# Altium integrated library Altera Cyclone II.IntLib: 204 symbols (part 10 of 40)
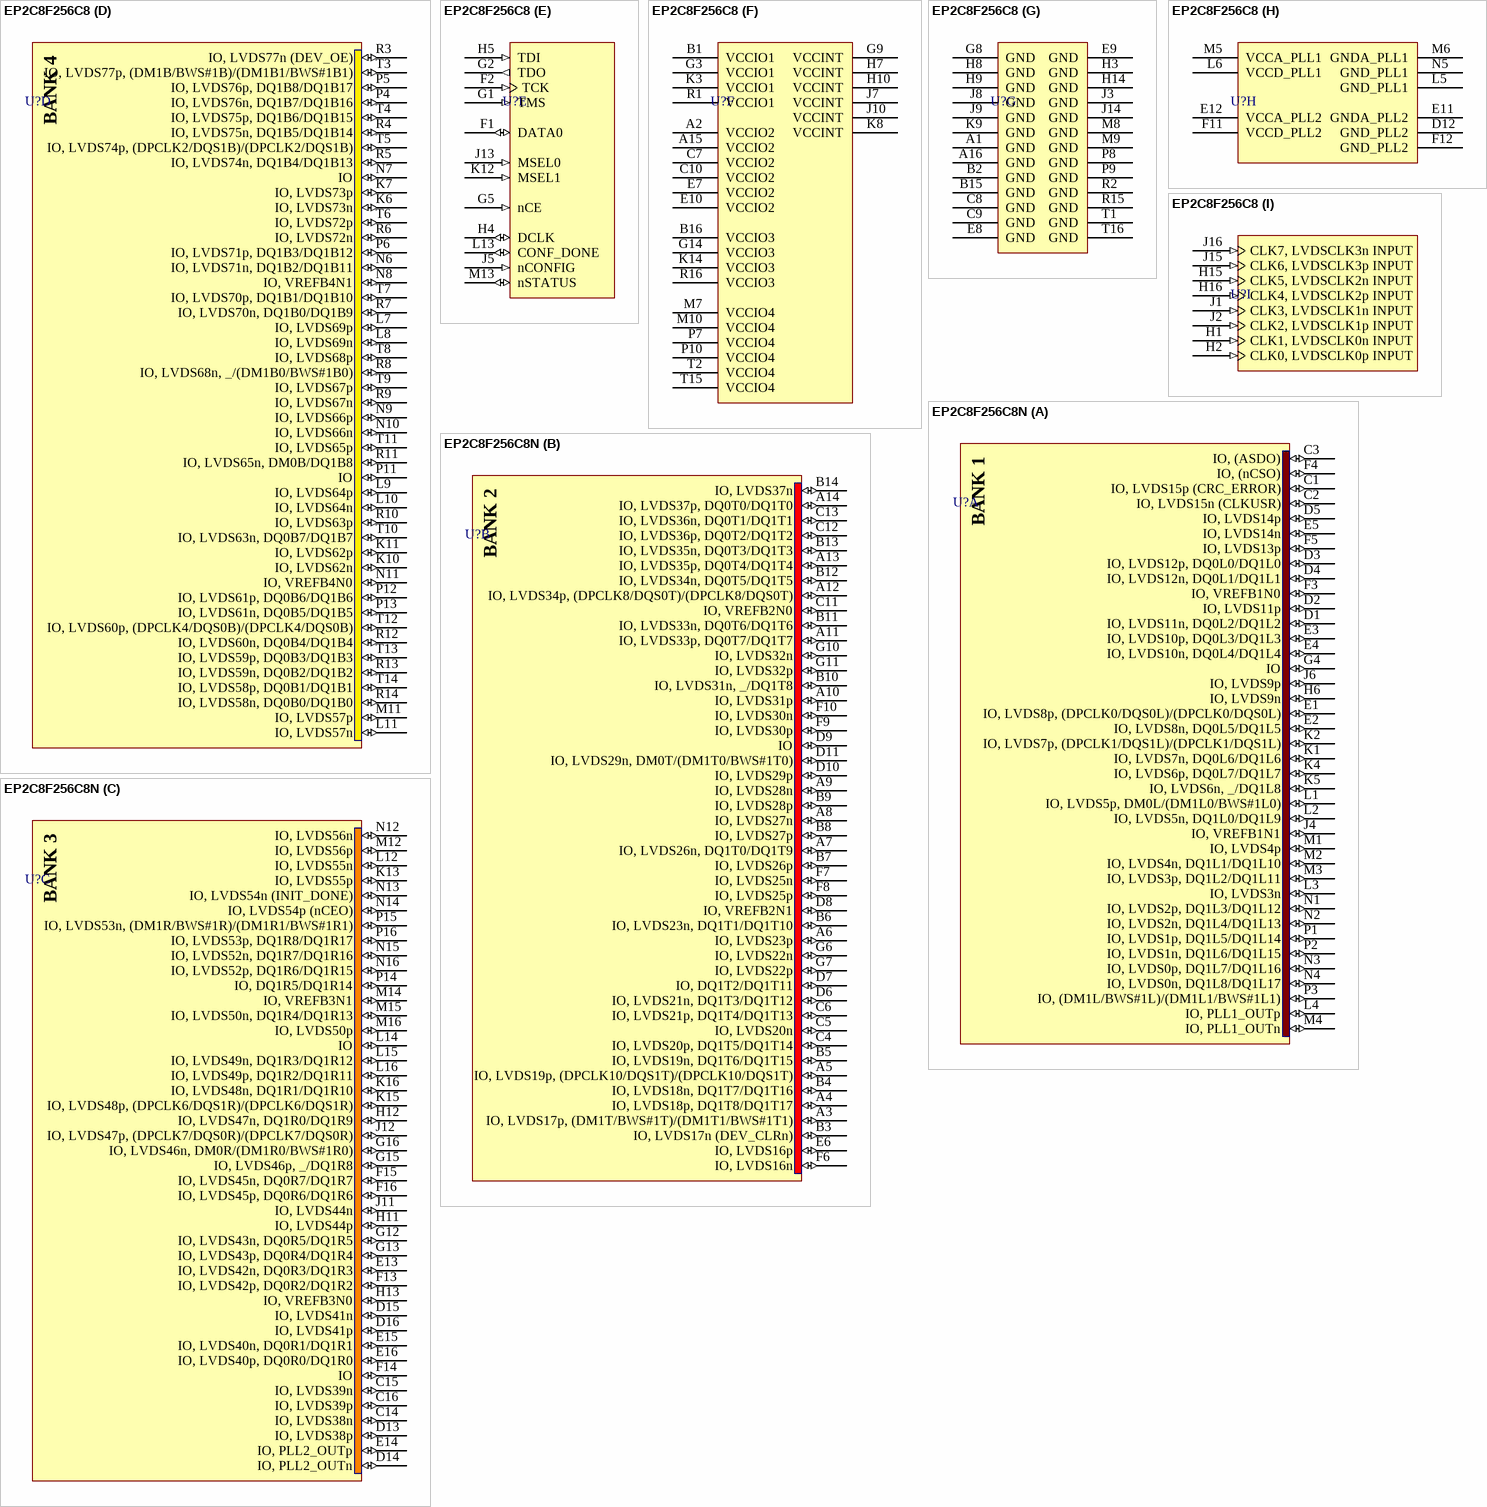
[diagram p339: symbols EP2C8F256C8 to EP2C8F256C8N]

## EP2C8F256C8
designator U?
Cyclone II Family, 1.2V FPGA, 182 I/O Pins, 2 PLLs, 256-Pin FBGA, Speed Grade 8, Commercial Grade; Note: DQS signal pins named according to DQ bus modes.  "/" separates each mode. ie. Modes x8/x9 / Modes x16/x18.; Published: 4-Mar-2005; LatestRevisionDate: 13-Apr-2006; LatestRevisionNote: IPC-7351 Footprint Added.; DatasheetVersion: ver2.3, Mar-2006; PackageVersion: ver14.2, Oct-2005; PackageReference: FBGA256; Publisher: Altium Limited; PackageDescription: 256-Ball FineLine Ball Grid Array (FBGA256) - Option 1; Code_JEDEC: MS-034-AAF-1; Code_IPC: BGA100P16X16-256; ComponentLink1Description: Manufacturer Link; ComponentLink1URL: http://www.altera.com/products/devices/cyclone2/cy2-index.jsp; ComponentLink2Description: Handbook; ComponentLink2URL: http://www.altera.com/literature/hb/cyc2/cyc2_cii5v1.pdf; ComponentLink3Description: Packaging Specification; ComponentLink3URL: http://www.altera.com/literature/ds/dspkg.pdf
footprint FBGA256 (BGA, 256-Leads, Body 17x17mm, Pitch 1mm)
3D model EP2C8-FBGA256 (256-Ball FineLine Ball Grid Array (FBGA256) - Option 1)
signal-integrity model EP2C8F_256 (Cyclone II)
part A pins: C1 IO, LVDS15p (CRC_ERROR) (io), C2 IO, LVDS15n (CLKUSR) (io), C3 IO, (ASDO) (io), D1 IO, LVDS11n, DQ0L2/DQ1L2 (io), D2 IO, LVDS11p (io), D3 IO, LVDS12p, DQ0L0/DQ1L0 (io), D4 IO, LVDS12n, DQ0L1/DQ1L1 (io), D5 IO, LVDS14p (io), E1 IO, LVDS8p, (DPCLK0/DQS0L)/(DPCLK0/DQS0L) (io), E2 IO, LVDS8n, DQ0L5/DQ1L5 (io), E3 IO, LVDS10p, DQ0L3/DQ1L3 (io), E4 IO, LVDS10n, DQ0L4/DQ1L4 (io), E5 IO, LVDS14n (io), F3 IO, VREFB1N0 (io), F4 IO, (nCSO) (io), F5 IO, LVDS13p (io), G4 IO (io), H6 IO, LVDS9n (io), J4 IO, VREFB1N1 (io), J6 IO, LVDS9p (io), K1 IO, LVDS7n, DQ0L6/DQ1L6 (io), K2 IO, LVDS7p, (DPCLK1/DQS1L)/(DPCLK1/DQS1L) (io), K4 IO, LVDS6p, DQ0L7/DQ1L7 (io), K5 IO, LVDS6n, _/DQ1L8 (io), L1 IO, LVDS5p, DM0L/(DM1L0/BWS#1L0) (io), L2 IO, LVDS5n, DQ1L0/DQ1L9 (io), L3 IO, LVDS3n (io), L4 IO, PLL1_OUTp (io), M1 IO, LVDS4p (io), M2 IO, LVDS4n, DQ1L1/DQ1L10 (io), M3 IO, LVDS3p, DQ1L2/DQ1L11 (io), M4 IO, PLL1_OUTn (io), N1 IO, LVDS2p, DQ1L3/DQ1L12 (io), N2 IO, LVDS2n, DQ1L4/DQ1L13 (io), N3 IO, LVDS0p, DQ1L7/DQ1L16 (io), N4 IO, LVDS0n, DQ1L8/DQ1L17 (io), P1 IO, LVDS1p, DQ1L5/DQ1L14 (io), P2 IO, LVDS1n, DQ1L6/DQ1L15 (io), P3 IO, (DM1L/BWS#1L)/(DM1L1/BWS#1L1) (io)
part B pins: A3 IO, LVDS17p, (DM1T/BWS#1T)/(DM1T1/BWS#1T1) (io), A4 IO, LVDS18p, DQ1T8/DQ1T17 (io), A5 IO, LVDS19p, (DPCLK10/DQS1T)/(DPCLK10/DQS1T) (io), A6 IO, LVDS23p (io), A7 IO, LVDS26n, DQ1T0/DQ1T9 (io), A8 IO, LVDS27n (io), A9 IO, LVDS28n (io), A10 IO, LVDS31p (io), A11 IO, LVDS33p, DQ0T7/DQ1T7 (io), A12 IO, LVDS34p, (DPCLK8/DQS0T)/(DPCLK8/DQS0T) (io), A13 IO, LVDS35p, DQ0T4/DQ1T4 (io), A14 IO, LVDS37p, DQ0T0/DQ1T0 (io), B3 IO, LVDS17n (DEV_CLRn) (io), B4 IO, LVDS18n, DQ1T7/DQ1T16 (io), B5 IO, LVDS19n, DQ1T6/DQ1T15 (io), B6 IO, LVDS23n, DQ1T1/DQ1T10 (io), B7 IO, LVDS26p (io), B8 IO, LVDS27p (io), B9 IO, LVDS28p (io), B10 IO, LVDS31n, _/DQ1T8 (io), B11 IO, LVDS33n, DQ0T6/DQ1T6 (io), B12 IO, LVDS34n, DQ0T5/DQ1T5 (io), B13 IO, LVDS35n, DQ0T3/DQ1T3 (io), B14 IO, LVDS37n (io), C4 IO, LVDS20p, DQ1T5/DQ1T14 (io), C5 IO, LVDS20n (io), C6 IO, LVDS21p, DQ1T4/DQ1T13 (io), C11 IO, VREFB2N0 (io), C12 IO, LVDS36p, DQ0T2/DQ1T2 (io), C13 IO, LVDS36n, DQ0T1/DQ1T1 (io), D6 IO, LVDS21n, DQ1T3/DQ1T12 (io), D7 IO, DQ1T2/DQ1T11 (io), D8 IO, VREFB2N1 (io), D9 IO (io), D10 IO, LVDS29p (io), D11 IO, LVDS29n, DM0T/(DM1T0/BWS#1T0) (io), E6 IO, LVDS16p (io), F6 IO, LVDS16n (io), F7 IO, LVDS25n (io), F8 IO, LVDS25p (io), F9 IO, LVDS30p (io), F10 IO, LVDS30n (io), G6 IO, LVDS22n (io), G7 IO, LVDS22p (io), G10 IO, LVDS32n (io), G11 IO, LVDS32p (io)
part C pins: C14 IO, LVDS38n (io), C15 IO, LVDS39n (io), C16 IO, LVDS39p (io), D13 IO, LVDS38p (io), D14 IO, PLL2_OUTn (io), D15 IO, LVDS41n (io), D16 IO, LVDS41p (io), E13 IO, LVDS42n, DQ0R3/DQ1R3 (io), E14 IO, PLL2_OUTp (io), E15 IO, LVDS40n, DQ0R1/DQ1R1 (io), E16 IO, LVDS40p, DQ0R0/DQ1R0 (io), F13 IO, LVDS42p, DQ0R2/DQ1R2 (io), F14 IO (io), F15 IO, LVDS45n, DQ0R7/DQ1R7 (io), F16 IO, LVDS45p, DQ0R6/DQ1R6 (io), G12 IO, LVDS43n, DQ0R5/DQ1R5 (io), G13 IO, LVDS43p, DQ0R4/DQ1R4 (io), G15 IO, LVDS46p, _/DQ1R8 (io), G16 IO, LVDS46n, DM0R/(DM1R0/BWS#1R0) (io), H11 IO, LVDS44p (io), H12 IO, LVDS47n, DQ1R0/DQ1R9 (io), H13 IO, VREFB3N0 (io), J11 IO, LVDS44n (io), J12 IO, LVDS47p, (DPCLK7/DQS0R)/(DPCLK7/DQS0R) (io), K13 IO, LVDS55p (io), K15 IO, LVDS48p, (DPCLK6/DQS1R)/(DPCLK6/DQS1R) (io), K16 IO, LVDS48n, DQ1R1/DQ1R10 (io), L12 IO, LVDS55n (io), L14 IO (io), L15 IO, LVDS49n, DQ1R3/DQ1R12 (io), L16 IO, LVDS49p, DQ1R2/DQ1R11 (io), M12 IO, LVDS56p (io), M14 IO, VREFB3N1 (io), M15 IO, LVDS50n, DQ1R4/DQ1R13 (io), M16 IO, LVDS50p (io), N12 IO, LVDS56n (io), N13 IO, LVDS54n (INIT_DONE) (io), N14 IO, LVDS54p (nCEO) (io), N15 IO, LVDS52n, DQ1R7/DQ1R16 (io), N16 IO, LVDS52p, DQ1R6/DQ1R15 (io), P14 IO, DQ1R5/DQ1R14 (io), P15 IO, LVDS53n, (DM1R/BWS#1R)/(DM1R1/BWS#1R1) (io), P16 IO, LVDS53p, DQ1R8/DQ1R17 (io)
part D pins: K6 IO, LVDS73n (io), K7 IO, LVDS73p (io), K10 IO, LVDS62n (io), K11 IO, LVDS62p (io), L7 IO, LVDS69p (io), L8 IO, LVDS69n (io), L9 IO, LVDS64p (io), L10 IO, LVDS64n (io), L11 IO, LVDS57n (io), M11 IO, LVDS57p (io), N6 IO, LVDS71n, DQ1B2/DQ1B11 (io), N7 IO (io), N8 IO, VREFB4N1 (io), N9 IO, LVDS66p (io), N10 IO, LVDS66n (io), N11 IO, VREFB4N0 (io), P4 IO, LVDS76n, DQ1B7/DQ1B16 (io), P5 IO, LVDS76p, DQ1B8/DQ1B17 (io), P6 IO, LVDS71p, DQ1B3/DQ1B12 (io), P11 IO (io), P12 IO, LVDS61p, DQ0B6/DQ1B6 (io), P13 IO, LVDS61n, DQ0B5/DQ1B5 (io), R3 IO, LVDS77n (DEV_OE) (io), R4 IO, LVDS75n, DQ1B5/DQ1B14 (io), R5 IO, LVDS74n, DQ1B4/DQ1B13 (io), R6 IO, LVDS72n (io), R7 IO, LVDS70n, DQ1B0/DQ1B9 (io), R8 IO, LVDS68n, _/(DM1B0/BWS#1B0) (io), R9 IO, LVDS67n (io), R10 IO, LVDS63p (io), R11 IO, LVDS65n, DM0B/DQ1B8 (io), R12 IO, LVDS60n, DQ0B4/DQ1B4 (io), R13 IO, LVDS59n, DQ0B2/DQ1B2 (io), R14 IO, LVDS58n, DQ0B0/DQ1B0 (io), T3 IO, LVDS77p, (DM1B/BWS#1B)/(DM1B1/BWS#1B1) (io), T4 IO, LVDS75p, DQ1B6/DQ1B15 (io), T5 IO, LVDS74p, (DPCLK2/DQS1B)/(DPCLK2/DQS1B) (io), T6 IO, LVDS72p (io), T7 IO, LVDS70p, DQ1B1/DQ1B10 (io), T8 IO, LVDS68p (io), T9 IO, LVDS67p (io), T10 IO, LVDS63n, DQ0B7/DQ1B7 (io), T11 IO, LVDS65p (io), T12 IO, LVDS60p, (DPCLK4/DQS0B)/(DPCLK4/DQS0B) (io), T13 IO, LVDS59p, DQ0B3/DQ1B3 (io), T14 IO, LVDS58p, DQ0B1/DQ1B1 (io)
part E pins: F1 DATA0 (io), F2 TCK (in), G1 TMS (in), G2 TDO (out), G5 nCE (in), H4 DCLK (io), H5 TDI (in), J5 nCONFIG (in), J13 MSEL0 (in), K12 MSEL1 (in), L13 CONF_DONE (io), M13 nSTATUS (io)
part F pins: A2 VCCIO2 (power), A15 VCCIO2 (power), B1 VCCIO1 (power), B16 VCCIO3 (power), C7 VCCIO2 (power), C10 VCCIO2 (power), E7 VCCIO2 (power), E10 VCCIO2 (power), G3 VCCIO1 (power), G9 VCCINT (power), G14 VCCIO3 (power), H7 VCCINT (power), H10 VCCINT (power), J7 VCCINT (power), J10 VCCINT (power), K3 VCCIO1 (power), K8 VCCINT (power), K14 VCCIO3 (power), M7 VCCIO4 (power), M10 VCCIO4 (power), P7 VCCIO4 (power), P10 VCCIO4 (power), R1 VCCIO1 (power), R16 VCCIO3 (power), T2 VCCIO4 (power), T15 VCCIO4 (power)
part G pins: A1 GND (power), A16 GND (power), B2 GND (power), B15 GND (power), C8 GND (power), C9 GND (power), E8 GND (power), E9 GND (power), G8 GND (power), H3 GND (power), H8 GND (power), H9 GND (power), H14 GND (power), J3 GND (power), J8 GND (power), J9 GND (power), J14 GND (power), K9 GND (power), M8 GND (power), M9 GND (power), P8 GND (power), P9 GND (power), R2 GND (power), R15 GND (power), T1 GND (power), T16 GND (power)
part H pins: D12 GND_PLL2 (power), E11 GNDA_PLL2 (power), E12 VCCA_PLL2 (power), F11 VCCD_PLL2 (power), F12 GND_PLL2 (power), L5 GND_PLL1 (power), L6 VCCD_PLL1 (power), M5 VCCA_PLL1 (power), M6 GNDA_PLL1 (power), N5 GND_PLL1 (power)
part I pins: H1 CLK1, LVDSCLK0n INPUT (in), H2 CLK0, LVDSCLK0p INPUT (in), H15 CLK5, LVDSCLK2n INPUT (in), H16 CLK4, LVDSCLK2p INPUT (in), J1 CLK3, LVDSCLK1n INPUT (in), J2 CLK2, LVDSCLK1p INPUT (in), J15 CLK6, LVDSCLK3p INPUT (in), J16 CLK7, LVDSCLK3n INPUT (in)
part A text: BANK 1
part B text: BANK 2
part C text: BANK 3
part D text: BANK 4

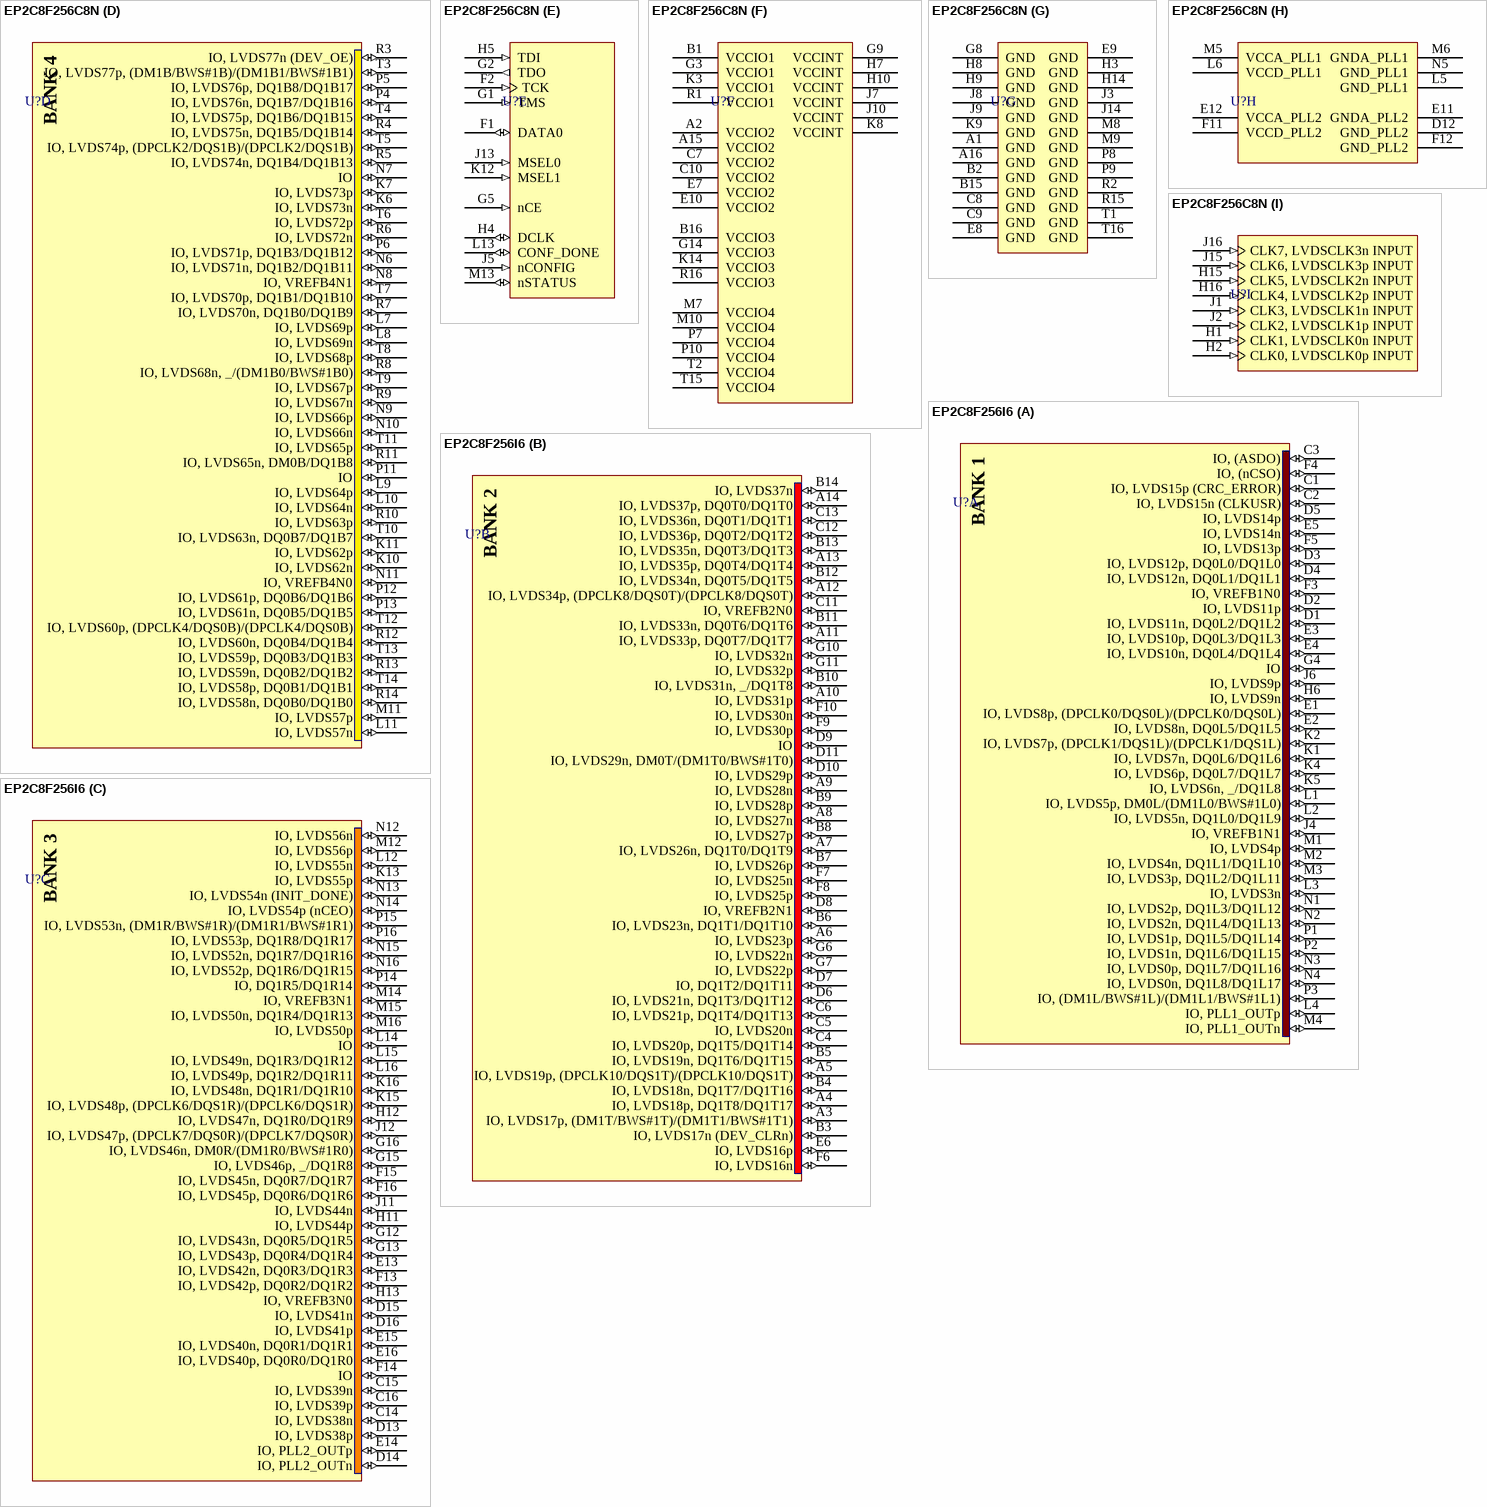
[diagram p35: symbols EP2C8F256C8N to EP2C8F256I6]

## EP2C8F256C8N
designator U?
Cyclone II Family, 1.2V FPGA, 182 I/O Pins, 2 PLLs, 256-Pin FBGA, Speed Grade 8, Commercial Grade, Pb-Free; Note: DQS signal pins named according to DQ bus modes.  "/" separates each mode. ie. Modes x8/x9 / Modes x16/x18.; Published: 4-Mar-2005; LatestRevisionDate: 13-Apr-2006; LatestRevisionNote: IPC-7351 Footprint Added.; DatasheetVersion: ver2.3, Mar-2006; PackageVersion: ver14.2, Oct-2005; PackageReference: FBGA256; Publisher: Altium Limited; PackageDescription: 256-Ball FineLine Ball Grid Array (FBGA256) - Option 1; Code_JEDEC: MS-034-AAF-1; Code_IPC: BGA100P16X16-256; ComponentLink1Description: Manufacturer Link; ComponentLink1URL: http://www.altera.com/products/devices/cyclone2/cy2-index.jsp; ComponentLink2Description: Handbook; ComponentLink2URL: http://www.altera.com/literature/hb/cyc2/cyc2_cii5v1.pdf; ComponentLink3Description: Packaging Specification; ComponentLink3URL: http://www.altera.com/literature/ds/dspkg.pdf
footprint FBGA256 (BGA, 256-Leads, Body 17x17mm, Pitch 1mm)
3D model EP2C8-FBGA256 (256-Ball FineLine Ball Grid Array (FBGA256) - Option 1)
signal-integrity model EP2C8F_256 (Cyclone II)
part A pins: C1 IO, LVDS15p (CRC_ERROR) (io), C2 IO, LVDS15n (CLKUSR) (io), C3 IO, (ASDO) (io), D1 IO, LVDS11n, DQ0L2/DQ1L2 (io), D2 IO, LVDS11p (io), D3 IO, LVDS12p, DQ0L0/DQ1L0 (io), D4 IO, LVDS12n, DQ0L1/DQ1L1 (io), D5 IO, LVDS14p (io), E1 IO, LVDS8p, (DPCLK0/DQS0L)/(DPCLK0/DQS0L) (io), E2 IO, LVDS8n, DQ0L5/DQ1L5 (io), E3 IO, LVDS10p, DQ0L3/DQ1L3 (io), E4 IO, LVDS10n, DQ0L4/DQ1L4 (io), E5 IO, LVDS14n (io), F3 IO, VREFB1N0 (io), F4 IO, (nCSO) (io), F5 IO, LVDS13p (io), G4 IO (io), H6 IO, LVDS9n (io), J4 IO, VREFB1N1 (io), J6 IO, LVDS9p (io), K1 IO, LVDS7n, DQ0L6/DQ1L6 (io), K2 IO, LVDS7p, (DPCLK1/DQS1L)/(DPCLK1/DQS1L) (io), K4 IO, LVDS6p, DQ0L7/DQ1L7 (io), K5 IO, LVDS6n, _/DQ1L8 (io), L1 IO, LVDS5p, DM0L/(DM1L0/BWS#1L0) (io), L2 IO, LVDS5n, DQ1L0/DQ1L9 (io), L3 IO, LVDS3n (io), L4 IO, PLL1_OUTp (io), M1 IO, LVDS4p (io), M2 IO, LVDS4n, DQ1L1/DQ1L10 (io), M3 IO, LVDS3p, DQ1L2/DQ1L11 (io), M4 IO, PLL1_OUTn (io), N1 IO, LVDS2p, DQ1L3/DQ1L12 (io), N2 IO, LVDS2n, DQ1L4/DQ1L13 (io), N3 IO, LVDS0p, DQ1L7/DQ1L16 (io), N4 IO, LVDS0n, DQ1L8/DQ1L17 (io), P1 IO, LVDS1p, DQ1L5/DQ1L14 (io), P2 IO, LVDS1n, DQ1L6/DQ1L15 (io), P3 IO, (DM1L/BWS#1L)/(DM1L1/BWS#1L1) (io)
part B pins: A3 IO, LVDS17p, (DM1T/BWS#1T)/(DM1T1/BWS#1T1) (io), A4 IO, LVDS18p, DQ1T8/DQ1T17 (io), A5 IO, LVDS19p, (DPCLK10/DQS1T)/(DPCLK10/DQS1T) (io), A6 IO, LVDS23p (io), A7 IO, LVDS26n, DQ1T0/DQ1T9 (io), A8 IO, LVDS27n (io), A9 IO, LVDS28n (io), A10 IO, LVDS31p (io), A11 IO, LVDS33p, DQ0T7/DQ1T7 (io), A12 IO, LVDS34p, (DPCLK8/DQS0T)/(DPCLK8/DQS0T) (io), A13 IO, LVDS35p, DQ0T4/DQ1T4 (io), A14 IO, LVDS37p, DQ0T0/DQ1T0 (io), B3 IO, LVDS17n (DEV_CLRn) (io), B4 IO, LVDS18n, DQ1T7/DQ1T16 (io), B5 IO, LVDS19n, DQ1T6/DQ1T15 (io), B6 IO, LVDS23n, DQ1T1/DQ1T10 (io), B7 IO, LVDS26p (io), B8 IO, LVDS27p (io), B9 IO, LVDS28p (io), B10 IO, LVDS31n, _/DQ1T8 (io), B11 IO, LVDS33n, DQ0T6/DQ1T6 (io), B12 IO, LVDS34n, DQ0T5/DQ1T5 (io), B13 IO, LVDS35n, DQ0T3/DQ1T3 (io), B14 IO, LVDS37n (io), C4 IO, LVDS20p, DQ1T5/DQ1T14 (io), C5 IO, LVDS20n (io), C6 IO, LVDS21p, DQ1T4/DQ1T13 (io), C11 IO, VREFB2N0 (io), C12 IO, LVDS36p, DQ0T2/DQ1T2 (io), C13 IO, LVDS36n, DQ0T1/DQ1T1 (io), D6 IO, LVDS21n, DQ1T3/DQ1T12 (io), D7 IO, DQ1T2/DQ1T11 (io), D8 IO, VREFB2N1 (io), D9 IO (io), D10 IO, LVDS29p (io), D11 IO, LVDS29n, DM0T/(DM1T0/BWS#1T0) (io), E6 IO, LVDS16p (io), F6 IO, LVDS16n (io), F7 IO, LVDS25n (io), F8 IO, LVDS25p (io), F9 IO, LVDS30p (io), F10 IO, LVDS30n (io), G6 IO, LVDS22n (io), G7 IO, LVDS22p (io), G10 IO, LVDS32n (io), G11 IO, LVDS32p (io)
part C pins: C14 IO, LVDS38n (io), C15 IO, LVDS39n (io), C16 IO, LVDS39p (io), D13 IO, LVDS38p (io), D14 IO, PLL2_OUTn (io), D15 IO, LVDS41n (io), D16 IO, LVDS41p (io), E13 IO, LVDS42n, DQ0R3/DQ1R3 (io), E14 IO, PLL2_OUTp (io), E15 IO, LVDS40n, DQ0R1/DQ1R1 (io), E16 IO, LVDS40p, DQ0R0/DQ1R0 (io), F13 IO, LVDS42p, DQ0R2/DQ1R2 (io), F14 IO (io), F15 IO, LVDS45n, DQ0R7/DQ1R7 (io), F16 IO, LVDS45p, DQ0R6/DQ1R6 (io), G12 IO, LVDS43n, DQ0R5/DQ1R5 (io), G13 IO, LVDS43p, DQ0R4/DQ1R4 (io), G15 IO, LVDS46p, _/DQ1R8 (io), G16 IO, LVDS46n, DM0R/(DM1R0/BWS#1R0) (io), H11 IO, LVDS44p (io), H12 IO, LVDS47n, DQ1R0/DQ1R9 (io), H13 IO, VREFB3N0 (io), J11 IO, LVDS44n (io), J12 IO, LVDS47p, (DPCLK7/DQS0R)/(DPCLK7/DQS0R) (io), K13 IO, LVDS55p (io), K15 IO, LVDS48p, (DPCLK6/DQS1R)/(DPCLK6/DQS1R) (io), K16 IO, LVDS48n, DQ1R1/DQ1R10 (io), L12 IO, LVDS55n (io), L14 IO (io), L15 IO, LVDS49n, DQ1R3/DQ1R12 (io), L16 IO, LVDS49p, DQ1R2/DQ1R11 (io), M12 IO, LVDS56p (io), M14 IO, VREFB3N1 (io), M15 IO, LVDS50n, DQ1R4/DQ1R13 (io), M16 IO, LVDS50p (io), N12 IO, LVDS56n (io), N13 IO, LVDS54n (INIT_DONE) (io), N14 IO, LVDS54p (nCEO) (io), N15 IO, LVDS52n, DQ1R7/DQ1R16 (io), N16 IO, LVDS52p, DQ1R6/DQ1R15 (io), P14 IO, DQ1R5/DQ1R14 (io), P15 IO, LVDS53n, (DM1R/BWS#1R)/(DM1R1/BWS#1R1) (io), P16 IO, LVDS53p, DQ1R8/DQ1R17 (io)
part D pins: K6 IO, LVDS73n (io), K7 IO, LVDS73p (io), K10 IO, LVDS62n (io), K11 IO, LVDS62p (io), L7 IO, LVDS69p (io), L8 IO, LVDS69n (io), L9 IO, LVDS64p (io), L10 IO, LVDS64n (io), L11 IO, LVDS57n (io), M11 IO, LVDS57p (io), N6 IO, LVDS71n, DQ1B2/DQ1B11 (io), N7 IO (io), N8 IO, VREFB4N1 (io), N9 IO, LVDS66p (io), N10 IO, LVDS66n (io), N11 IO, VREFB4N0 (io), P4 IO, LVDS76n, DQ1B7/DQ1B16 (io), P5 IO, LVDS76p, DQ1B8/DQ1B17 (io), P6 IO, LVDS71p, DQ1B3/DQ1B12 (io), P11 IO (io), P12 IO, LVDS61p, DQ0B6/DQ1B6 (io), P13 IO, LVDS61n, DQ0B5/DQ1B5 (io), R3 IO, LVDS77n (DEV_OE) (io), R4 IO, LVDS75n, DQ1B5/DQ1B14 (io), R5 IO, LVDS74n, DQ1B4/DQ1B13 (io), R6 IO, LVDS72n (io), R7 IO, LVDS70n, DQ1B0/DQ1B9 (io), R8 IO, LVDS68n, _/(DM1B0/BWS#1B0) (io), R9 IO, LVDS67n (io), R10 IO, LVDS63p (io), R11 IO, LVDS65n, DM0B/DQ1B8 (io), R12 IO, LVDS60n, DQ0B4/DQ1B4 (io), R13 IO, LVDS59n, DQ0B2/DQ1B2 (io), R14 IO, LVDS58n, DQ0B0/DQ1B0 (io), T3 IO, LVDS77p, (DM1B/BWS#1B)/(DM1B1/BWS#1B1) (io), T4 IO, LVDS75p, DQ1B6/DQ1B15 (io), T5 IO, LVDS74p, (DPCLK2/DQS1B)/(DPCLK2/DQS1B) (io), T6 IO, LVDS72p (io), T7 IO, LVDS70p, DQ1B1/DQ1B10 (io), T8 IO, LVDS68p (io), T9 IO, LVDS67p (io), T10 IO, LVDS63n, DQ0B7/DQ1B7 (io), T11 IO, LVDS65p (io), T12 IO, LVDS60p, (DPCLK4/DQS0B)/(DPCLK4/DQS0B) (io), T13 IO, LVDS59p, DQ0B3/DQ1B3 (io), T14 IO, LVDS58p, DQ0B1/DQ1B1 (io)
part E pins: F1 DATA0 (io), F2 TCK (in), G1 TMS (in), G2 TDO (out), G5 nCE (in), H4 DCLK (io), H5 TDI (in), J5 nCONFIG (in), J13 MSEL0 (in), K12 MSEL1 (in), L13 CONF_DONE (io), M13 nSTATUS (io)
part F pins: A2 VCCIO2 (power), A15 VCCIO2 (power), B1 VCCIO1 (power), B16 VCCIO3 (power), C7 VCCIO2 (power), C10 VCCIO2 (power), E7 VCCIO2 (power), E10 VCCIO2 (power), G3 VCCIO1 (power), G9 VCCINT (power), G14 VCCIO3 (power), H7 VCCINT (power), H10 VCCINT (power), J7 VCCINT (power), J10 VCCINT (power), K3 VCCIO1 (power), K8 VCCINT (power), K14 VCCIO3 (power), M7 VCCIO4 (power), M10 VCCIO4 (power), P7 VCCIO4 (power), P10 VCCIO4 (power), R1 VCCIO1 (power), R16 VCCIO3 (power), T2 VCCIO4 (power), T15 VCCIO4 (power)
part G pins: A1 GND (power), A16 GND (power), B2 GND (power), B15 GND (power), C8 GND (power), C9 GND (power), E8 GND (power), E9 GND (power), G8 GND (power), H3 GND (power), H8 GND (power), H9 GND (power), H14 GND (power), J3 GND (power), J8 GND (power), J9 GND (power), J14 GND (power), K9 GND (power), M8 GND (power), M9 GND (power), P8 GND (power), P9 GND (power), R2 GND (power), R15 GND (power), T1 GND (power), T16 GND (power)
part H pins: D12 GND_PLL2 (power), E11 GNDA_PLL2 (power), E12 VCCA_PLL2 (power), F11 VCCD_PLL2 (power), F12 GND_PLL2 (power), L5 GND_PLL1 (power), L6 VCCD_PLL1 (power), M5 VCCA_PLL1 (power), M6 GNDA_PLL1 (power), N5 GND_PLL1 (power)
part I pins: H1 CLK1, LVDSCLK0n INPUT (in), H2 CLK0, LVDSCLK0p INPUT (in), H15 CLK5, LVDSCLK2n INPUT (in), H16 CLK4, LVDSCLK2p INPUT (in), J1 CLK3, LVDSCLK1n INPUT (in), J2 CLK2, LVDSCLK1p INPUT (in), J15 CLK6, LVDSCLK3p INPUT (in), J16 CLK7, LVDSCLK3n INPUT (in)
part A text: BANK 1
part B text: BANK 2
part C text: BANK 3
part D text: BANK 4

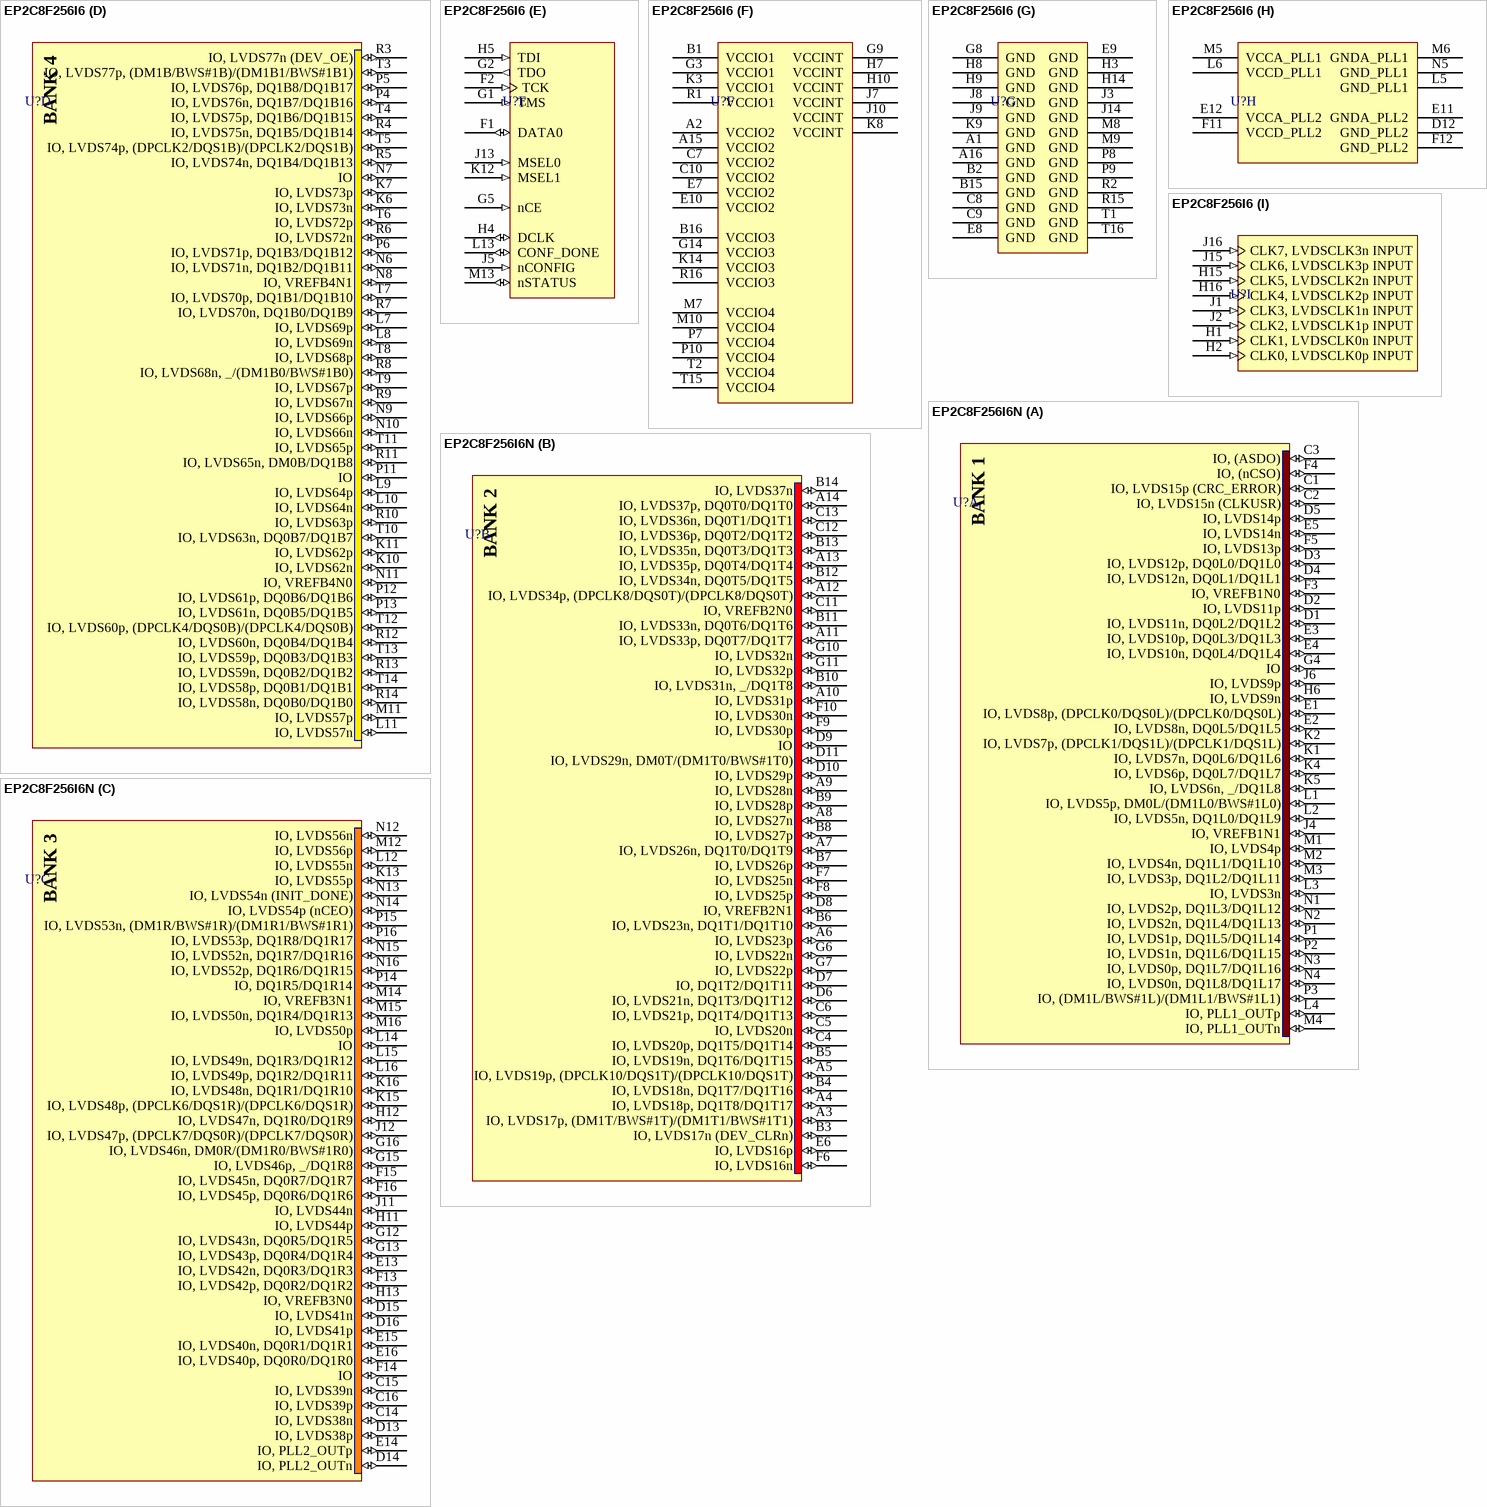
[diagram p36: symbols EP2C8F256I6 to EP2C8F256I6N]

## EP2C8F256I6
designator U?
Cyclone II Family, 1.2V FPGA, 182 I/O Pins, 2 PLLs, 256-Pin FBGA, Speed Grade 6, Industrial Grade; Note: DQS signal pins named according to DQ bus modes.  "/" separates each mode. ie. Modes x8/x9 / Modes x16/x18.; Published: 18-Aug-2005; LatestRevisionDate: 13-Apr-2006; LatestRevisionNote: IPC-7351 Footprint Added.; DatasheetVersion: ver2.3, Mar-2006; PackageVersion: ver14.2, Oct-2005; PackageReference: FBGA256; Publisher: Altium Limited; PackageDescription: 256-Ball FineLine Ball Grid Array (FBGA256) - Option 1; Code_JEDEC: MS-034-AAF-1; Code_IPC: BGA100P16X16-256; ComponentLink1Description: Manufacturer Link; ComponentLink1URL: http://www.altera.com/products/devices/cyclone2/cy2-index.jsp; ComponentLink2Description: Handbook; ComponentLink2URL: http://www.altera.com/literature/hb/cyc2/cyc2_cii5v1.pdf; ComponentLink3Description: Packaging Specification; ComponentLink3URL: http://www.altera.com/literature/ds/dspkg.pdf
footprint FBGA256 (BGA, 256-Leads, Body 17x17mm, Pitch 1mm)
3D model EP2C8-FBGA256 (256-Ball FineLine Ball Grid Array (FBGA256) - Option 1)
signal-integrity model EP2C8F_256 (Cyclone II)
part A pins: C1 IO, LVDS15p (CRC_ERROR) (io), C2 IO, LVDS15n (CLKUSR) (io), C3 IO, (ASDO) (io), D1 IO, LVDS11n, DQ0L2/DQ1L2 (io), D2 IO, LVDS11p (io), D3 IO, LVDS12p, DQ0L0/DQ1L0 (io), D4 IO, LVDS12n, DQ0L1/DQ1L1 (io), D5 IO, LVDS14p (io), E1 IO, LVDS8p, (DPCLK0/DQS0L)/(DPCLK0/DQS0L) (io), E2 IO, LVDS8n, DQ0L5/DQ1L5 (io), E3 IO, LVDS10p, DQ0L3/DQ1L3 (io), E4 IO, LVDS10n, DQ0L4/DQ1L4 (io), E5 IO, LVDS14n (io), F3 IO, VREFB1N0 (io), F4 IO, (nCSO) (io), F5 IO, LVDS13p (io), G4 IO (io), H6 IO, LVDS9n (io), J4 IO, VREFB1N1 (io), J6 IO, LVDS9p (io), K1 IO, LVDS7n, DQ0L6/DQ1L6 (io), K2 IO, LVDS7p, (DPCLK1/DQS1L)/(DPCLK1/DQS1L) (io), K4 IO, LVDS6p, DQ0L7/DQ1L7 (io), K5 IO, LVDS6n, _/DQ1L8 (io), L1 IO, LVDS5p, DM0L/(DM1L0/BWS#1L0) (io), L2 IO, LVDS5n, DQ1L0/DQ1L9 (io), L3 IO, LVDS3n (io), L4 IO, PLL1_OUTp (io), M1 IO, LVDS4p (io), M2 IO, LVDS4n, DQ1L1/DQ1L10 (io), M3 IO, LVDS3p, DQ1L2/DQ1L11 (io), M4 IO, PLL1_OUTn (io), N1 IO, LVDS2p, DQ1L3/DQ1L12 (io), N2 IO, LVDS2n, DQ1L4/DQ1L13 (io), N3 IO, LVDS0p, DQ1L7/DQ1L16 (io), N4 IO, LVDS0n, DQ1L8/DQ1L17 (io), P1 IO, LVDS1p, DQ1L5/DQ1L14 (io), P2 IO, LVDS1n, DQ1L6/DQ1L15 (io), P3 IO, (DM1L/BWS#1L)/(DM1L1/BWS#1L1) (io)
part B pins: A3 IO, LVDS17p, (DM1T/BWS#1T)/(DM1T1/BWS#1T1) (io), A4 IO, LVDS18p, DQ1T8/DQ1T17 (io), A5 IO, LVDS19p, (DPCLK10/DQS1T)/(DPCLK10/DQS1T) (io), A6 IO, LVDS23p (io), A7 IO, LVDS26n, DQ1T0/DQ1T9 (io), A8 IO, LVDS27n (io), A9 IO, LVDS28n (io), A10 IO, LVDS31p (io), A11 IO, LVDS33p, DQ0T7/DQ1T7 (io), A12 IO, LVDS34p, (DPCLK8/DQS0T)/(DPCLK8/DQS0T) (io), A13 IO, LVDS35p, DQ0T4/DQ1T4 (io), A14 IO, LVDS37p, DQ0T0/DQ1T0 (io), B3 IO, LVDS17n (DEV_CLRn) (io), B4 IO, LVDS18n, DQ1T7/DQ1T16 (io), B5 IO, LVDS19n, DQ1T6/DQ1T15 (io), B6 IO, LVDS23n, DQ1T1/DQ1T10 (io), B7 IO, LVDS26p (io), B8 IO, LVDS27p (io), B9 IO, LVDS28p (io), B10 IO, LVDS31n, _/DQ1T8 (io), B11 IO, LVDS33n, DQ0T6/DQ1T6 (io), B12 IO, LVDS34n, DQ0T5/DQ1T5 (io), B13 IO, LVDS35n, DQ0T3/DQ1T3 (io), B14 IO, LVDS37n (io), C4 IO, LVDS20p, DQ1T5/DQ1T14 (io), C5 IO, LVDS20n (io), C6 IO, LVDS21p, DQ1T4/DQ1T13 (io), C11 IO, VREFB2N0 (io), C12 IO, LVDS36p, DQ0T2/DQ1T2 (io), C13 IO, LVDS36n, DQ0T1/DQ1T1 (io), D6 IO, LVDS21n, DQ1T3/DQ1T12 (io), D7 IO, DQ1T2/DQ1T11 (io), D8 IO, VREFB2N1 (io), D9 IO (io), D10 IO, LVDS29p (io), D11 IO, LVDS29n, DM0T/(DM1T0/BWS#1T0) (io), E6 IO, LVDS16p (io), F6 IO, LVDS16n (io), F7 IO, LVDS25n (io), F8 IO, LVDS25p (io), F9 IO, LVDS30p (io), F10 IO, LVDS30n (io), G6 IO, LVDS22n (io), G7 IO, LVDS22p (io), G10 IO, LVDS32n (io), G11 IO, LVDS32p (io)
part C pins: C14 IO, LVDS38n (io), C15 IO, LVDS39n (io), C16 IO, LVDS39p (io), D13 IO, LVDS38p (io), D14 IO, PLL2_OUTn (io), D15 IO, LVDS41n (io), D16 IO, LVDS41p (io), E13 IO, LVDS42n, DQ0R3/DQ1R3 (io), E14 IO, PLL2_OUTp (io), E15 IO, LVDS40n, DQ0R1/DQ1R1 (io), E16 IO, LVDS40p, DQ0R0/DQ1R0 (io), F13 IO, LVDS42p, DQ0R2/DQ1R2 (io), F14 IO (io), F15 IO, LVDS45n, DQ0R7/DQ1R7 (io), F16 IO, LVDS45p, DQ0R6/DQ1R6 (io), G12 IO, LVDS43n, DQ0R5/DQ1R5 (io), G13 IO, LVDS43p, DQ0R4/DQ1R4 (io), G15 IO, LVDS46p, _/DQ1R8 (io), G16 IO, LVDS46n, DM0R/(DM1R0/BWS#1R0) (io), H11 IO, LVDS44p (io), H12 IO, LVDS47n, DQ1R0/DQ1R9 (io), H13 IO, VREFB3N0 (io), J11 IO, LVDS44n (io), J12 IO, LVDS47p, (DPCLK7/DQS0R)/(DPCLK7/DQS0R) (io), K13 IO, LVDS55p (io), K15 IO, LVDS48p, (DPCLK6/DQS1R)/(DPCLK6/DQS1R) (io), K16 IO, LVDS48n, DQ1R1/DQ1R10 (io), L12 IO, LVDS55n (io), L14 IO (io), L15 IO, LVDS49n, DQ1R3/DQ1R12 (io), L16 IO, LVDS49p, DQ1R2/DQ1R11 (io), M12 IO, LVDS56p (io), M14 IO, VREFB3N1 (io), M15 IO, LVDS50n, DQ1R4/DQ1R13 (io), M16 IO, LVDS50p (io), N12 IO, LVDS56n (io), N13 IO, LVDS54n (INIT_DONE) (io), N14 IO, LVDS54p (nCEO) (io), N15 IO, LVDS52n, DQ1R7/DQ1R16 (io), N16 IO, LVDS52p, DQ1R6/DQ1R15 (io), P14 IO, DQ1R5/DQ1R14 (io), P15 IO, LVDS53n, (DM1R/BWS#1R)/(DM1R1/BWS#1R1) (io), P16 IO, LVDS53p, DQ1R8/DQ1R17 (io)
part D pins: K6 IO, LVDS73n (io), K7 IO, LVDS73p (io), K10 IO, LVDS62n (io), K11 IO, LVDS62p (io), L7 IO, LVDS69p (io), L8 IO, LVDS69n (io), L9 IO, LVDS64p (io), L10 IO, LVDS64n (io), L11 IO, LVDS57n (io), M11 IO, LVDS57p (io), N6 IO, LVDS71n, DQ1B2/DQ1B11 (io), N7 IO (io), N8 IO, VREFB4N1 (io), N9 IO, LVDS66p (io), N10 IO, LVDS66n (io), N11 IO, VREFB4N0 (io), P4 IO, LVDS76n, DQ1B7/DQ1B16 (io), P5 IO, LVDS76p, DQ1B8/DQ1B17 (io), P6 IO, LVDS71p, DQ1B3/DQ1B12 (io), P11 IO (io), P12 IO, LVDS61p, DQ0B6/DQ1B6 (io), P13 IO, LVDS61n, DQ0B5/DQ1B5 (io), R3 IO, LVDS77n (DEV_OE) (io), R4 IO, LVDS75n, DQ1B5/DQ1B14 (io), R5 IO, LVDS74n, DQ1B4/DQ1B13 (io), R6 IO, LVDS72n (io), R7 IO, LVDS70n, DQ1B0/DQ1B9 (io), R8 IO, LVDS68n, _/(DM1B0/BWS#1B0) (io), R9 IO, LVDS67n (io), R10 IO, LVDS63p (io), R11 IO, LVDS65n, DM0B/DQ1B8 (io), R12 IO, LVDS60n, DQ0B4/DQ1B4 (io), R13 IO, LVDS59n, DQ0B2/DQ1B2 (io), R14 IO, LVDS58n, DQ0B0/DQ1B0 (io), T3 IO, LVDS77p, (DM1B/BWS#1B)/(DM1B1/BWS#1B1) (io), T4 IO, LVDS75p, DQ1B6/DQ1B15 (io), T5 IO, LVDS74p, (DPCLK2/DQS1B)/(DPCLK2/DQS1B) (io), T6 IO, LVDS72p (io), T7 IO, LVDS70p, DQ1B1/DQ1B10 (io), T8 IO, LVDS68p (io), T9 IO, LVDS67p (io), T10 IO, LVDS63n, DQ0B7/DQ1B7 (io), T11 IO, LVDS65p (io), T12 IO, LVDS60p, (DPCLK4/DQS0B)/(DPCLK4/DQS0B) (io), T13 IO, LVDS59p, DQ0B3/DQ1B3 (io), T14 IO, LVDS58p, DQ0B1/DQ1B1 (io)
part E pins: F1 DATA0 (io), F2 TCK (in), G1 TMS (in), G2 TDO (out), G5 nCE (in), H4 DCLK (io), H5 TDI (in), J5 nCONFIG (in), J13 MSEL0 (in), K12 MSEL1 (in), L13 CONF_DONE (io), M13 nSTATUS (io)
part F pins: A2 VCCIO2 (power), A15 VCCIO2 (power), B1 VCCIO1 (power), B16 VCCIO3 (power), C7 VCCIO2 (power), C10 VCCIO2 (power), E7 VCCIO2 (power), E10 VCCIO2 (power), G3 VCCIO1 (power), G9 VCCINT (power), G14 VCCIO3 (power), H7 VCCINT (power), H10 VCCINT (power), J7 VCCINT (power), J10 VCCINT (power), K3 VCCIO1 (power), K8 VCCINT (power), K14 VCCIO3 (power), M7 VCCIO4 (power), M10 VCCIO4 (power), P7 VCCIO4 (power), P10 VCCIO4 (power), R1 VCCIO1 (power), R16 VCCIO3 (power), T2 VCCIO4 (power), T15 VCCIO4 (power)
part G pins: A1 GND (power), A16 GND (power), B2 GND (power), B15 GND (power), C8 GND (power), C9 GND (power), E8 GND (power), E9 GND (power), G8 GND (power), H3 GND (power), H8 GND (power), H9 GND (power), H14 GND (power), J3 GND (power), J8 GND (power), J9 GND (power), J14 GND (power), K9 GND (power), M8 GND (power), M9 GND (power), P8 GND (power), P9 GND (power), R2 GND (power), R15 GND (power), T1 GND (power), T16 GND (power)
part H pins: D12 GND_PLL2 (power), E11 GNDA_PLL2 (power), E12 VCCA_PLL2 (power), F11 VCCD_PLL2 (power), F12 GND_PLL2 (power), L5 GND_PLL1 (power), L6 VCCD_PLL1 (power), M5 VCCA_PLL1 (power), M6 GNDA_PLL1 (power), N5 GND_PLL1 (power)
part I pins: H1 CLK1, LVDSCLK0n INPUT (in), H2 CLK0, LVDSCLK0p INPUT (in), H15 CLK5, LVDSCLK2n INPUT (in), H16 CLK4, LVDSCLK2p INPUT (in), J1 CLK3, LVDSCLK1n INPUT (in), J2 CLK2, LVDSCLK1p INPUT (in), J15 CLK6, LVDSCLK3p INPUT (in), J16 CLK7, LVDSCLK3n INPUT (in)
part A text: BANK 1
part B text: BANK 2
part C text: BANK 3
part D text: BANK 4

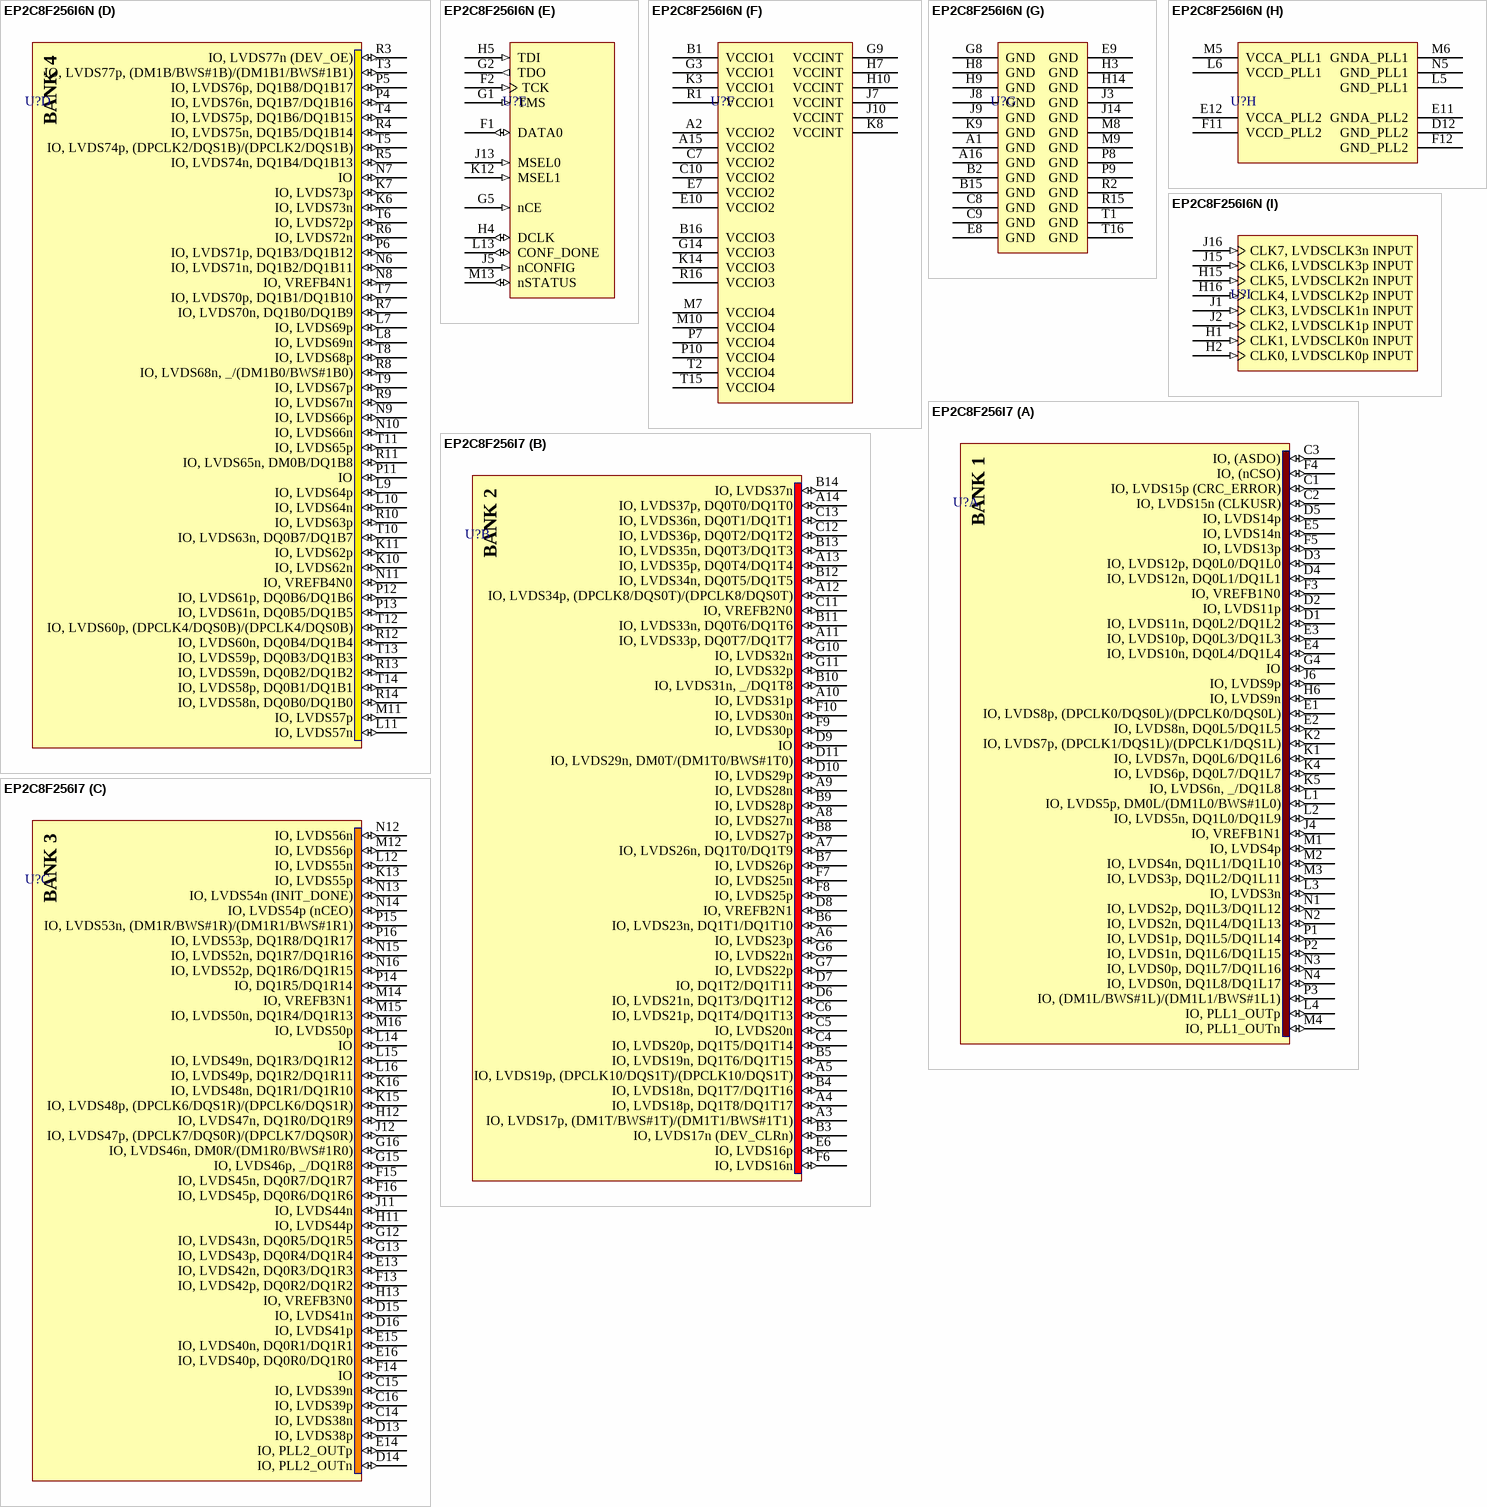
[diagram p37: symbols EP2C8F256I6N to EP2C8F256I7]

## EP2C8F256I6N
designator U?
Cyclone II Family, 1.2V FPGA, 182 I/O Pins, 2 PLLs, 256-Pin FBGA, Speed Grade 6, Industrial Grade, Pb-Free; Note: DQS signal pins named according to DQ bus modes.  "/" separates each mode. ie. Modes x8/x9 / Modes x16/x18.; Published: 18-Aug-2005; LatestRevisionDate: 13-Apr-2006; LatestRevisionNote: IPC-7351 Footprint Added.; DatasheetVersion: ver2.3, Mar-2006; PackageVersion: ver14.2, Oct-2005; PackageReference: FBGA256; Publisher: Altium Limited; PackageDescription: 256-Ball FineLine Ball Grid Array (FBGA256) - Option 1; Code_JEDEC: MS-034-AAF-1; Code_IPC: BGA100P16X16-256; ComponentLink1Description: Manufacturer Link; ComponentLink1URL: http://www.altera.com/products/devices/cyclone2/cy2-index.jsp; ComponentLink2Description: Handbook; ComponentLink2URL: http://www.altera.com/literature/hb/cyc2/cyc2_cii5v1.pdf; ComponentLink3Description: Packaging Specification; ComponentLink3URL: http://www.altera.com/literature/ds/dspkg.pdf
footprint FBGA256 (BGA, 256-Leads, Body 17x17mm, Pitch 1mm)
3D model EP2C8-FBGA256 (256-Ball FineLine Ball Grid Array (FBGA256) - Option 1)
signal-integrity model EP2C8F_256 (Cyclone II)
part A pins: C1 IO, LVDS15p (CRC_ERROR) (io), C2 IO, LVDS15n (CLKUSR) (io), C3 IO, (ASDO) (io), D1 IO, LVDS11n, DQ0L2/DQ1L2 (io), D2 IO, LVDS11p (io), D3 IO, LVDS12p, DQ0L0/DQ1L0 (io), D4 IO, LVDS12n, DQ0L1/DQ1L1 (io), D5 IO, LVDS14p (io), E1 IO, LVDS8p, (DPCLK0/DQS0L)/(DPCLK0/DQS0L) (io), E2 IO, LVDS8n, DQ0L5/DQ1L5 (io), E3 IO, LVDS10p, DQ0L3/DQ1L3 (io), E4 IO, LVDS10n, DQ0L4/DQ1L4 (io), E5 IO, LVDS14n (io), F3 IO, VREFB1N0 (io), F4 IO, (nCSO) (io), F5 IO, LVDS13p (io), G4 IO (io), H6 IO, LVDS9n (io), J4 IO, VREFB1N1 (io), J6 IO, LVDS9p (io), K1 IO, LVDS7n, DQ0L6/DQ1L6 (io), K2 IO, LVDS7p, (DPCLK1/DQS1L)/(DPCLK1/DQS1L) (io), K4 IO, LVDS6p, DQ0L7/DQ1L7 (io), K5 IO, LVDS6n, _/DQ1L8 (io), L1 IO, LVDS5p, DM0L/(DM1L0/BWS#1L0) (io), L2 IO, LVDS5n, DQ1L0/DQ1L9 (io), L3 IO, LVDS3n (io), L4 IO, PLL1_OUTp (io), M1 IO, LVDS4p (io), M2 IO, LVDS4n, DQ1L1/DQ1L10 (io), M3 IO, LVDS3p, DQ1L2/DQ1L11 (io), M4 IO, PLL1_OUTn (io), N1 IO, LVDS2p, DQ1L3/DQ1L12 (io), N2 IO, LVDS2n, DQ1L4/DQ1L13 (io), N3 IO, LVDS0p, DQ1L7/DQ1L16 (io), N4 IO, LVDS0n, DQ1L8/DQ1L17 (io), P1 IO, LVDS1p, DQ1L5/DQ1L14 (io), P2 IO, LVDS1n, DQ1L6/DQ1L15 (io), P3 IO, (DM1L/BWS#1L)/(DM1L1/BWS#1L1) (io)
part B pins: A3 IO, LVDS17p, (DM1T/BWS#1T)/(DM1T1/BWS#1T1) (io), A4 IO, LVDS18p, DQ1T8/DQ1T17 (io), A5 IO, LVDS19p, (DPCLK10/DQS1T)/(DPCLK10/DQS1T) (io), A6 IO, LVDS23p (io), A7 IO, LVDS26n, DQ1T0/DQ1T9 (io), A8 IO, LVDS27n (io), A9 IO, LVDS28n (io), A10 IO, LVDS31p (io), A11 IO, LVDS33p, DQ0T7/DQ1T7 (io), A12 IO, LVDS34p, (DPCLK8/DQS0T)/(DPCLK8/DQS0T) (io), A13 IO, LVDS35p, DQ0T4/DQ1T4 (io), A14 IO, LVDS37p, DQ0T0/DQ1T0 (io), B3 IO, LVDS17n (DEV_CLRn) (io), B4 IO, LVDS18n, DQ1T7/DQ1T16 (io), B5 IO, LVDS19n, DQ1T6/DQ1T15 (io), B6 IO, LVDS23n, DQ1T1/DQ1T10 (io), B7 IO, LVDS26p (io), B8 IO, LVDS27p (io), B9 IO, LVDS28p (io), B10 IO, LVDS31n, _/DQ1T8 (io), B11 IO, LVDS33n, DQ0T6/DQ1T6 (io), B12 IO, LVDS34n, DQ0T5/DQ1T5 (io), B13 IO, LVDS35n, DQ0T3/DQ1T3 (io), B14 IO, LVDS37n (io), C4 IO, LVDS20p, DQ1T5/DQ1T14 (io), C5 IO, LVDS20n (io), C6 IO, LVDS21p, DQ1T4/DQ1T13 (io), C11 IO, VREFB2N0 (io), C12 IO, LVDS36p, DQ0T2/DQ1T2 (io), C13 IO, LVDS36n, DQ0T1/DQ1T1 (io), D6 IO, LVDS21n, DQ1T3/DQ1T12 (io), D7 IO, DQ1T2/DQ1T11 (io), D8 IO, VREFB2N1 (io), D9 IO (io), D10 IO, LVDS29p (io), D11 IO, LVDS29n, DM0T/(DM1T0/BWS#1T0) (io), E6 IO, LVDS16p (io), F6 IO, LVDS16n (io), F7 IO, LVDS25n (io), F8 IO, LVDS25p (io), F9 IO, LVDS30p (io), F10 IO, LVDS30n (io), G6 IO, LVDS22n (io), G7 IO, LVDS22p (io), G10 IO, LVDS32n (io), G11 IO, LVDS32p (io)
part C pins: C14 IO, LVDS38n (io), C15 IO, LVDS39n (io), C16 IO, LVDS39p (io), D13 IO, LVDS38p (io), D14 IO, PLL2_OUTn (io), D15 IO, LVDS41n (io), D16 IO, LVDS41p (io), E13 IO, LVDS42n, DQ0R3/DQ1R3 (io), E14 IO, PLL2_OUTp (io), E15 IO, LVDS40n, DQ0R1/DQ1R1 (io), E16 IO, LVDS40p, DQ0R0/DQ1R0 (io), F13 IO, LVDS42p, DQ0R2/DQ1R2 (io), F14 IO (io), F15 IO, LVDS45n, DQ0R7/DQ1R7 (io), F16 IO, LVDS45p, DQ0R6/DQ1R6 (io), G12 IO, LVDS43n, DQ0R5/DQ1R5 (io), G13 IO, LVDS43p, DQ0R4/DQ1R4 (io), G15 IO, LVDS46p, _/DQ1R8 (io), G16 IO, LVDS46n, DM0R/(DM1R0/BWS#1R0) (io), H11 IO, LVDS44p (io), H12 IO, LVDS47n, DQ1R0/DQ1R9 (io), H13 IO, VREFB3N0 (io), J11 IO, LVDS44n (io), J12 IO, LVDS47p, (DPCLK7/DQS0R)/(DPCLK7/DQS0R) (io), K13 IO, LVDS55p (io), K15 IO, LVDS48p, (DPCLK6/DQS1R)/(DPCLK6/DQS1R) (io), K16 IO, LVDS48n, DQ1R1/DQ1R10 (io), L12 IO, LVDS55n (io), L14 IO (io), L15 IO, LVDS49n, DQ1R3/DQ1R12 (io), L16 IO, LVDS49p, DQ1R2/DQ1R11 (io), M12 IO, LVDS56p (io), M14 IO, VREFB3N1 (io), M15 IO, LVDS50n, DQ1R4/DQ1R13 (io), M16 IO, LVDS50p (io), N12 IO, LVDS56n (io), N13 IO, LVDS54n (INIT_DONE) (io), N14 IO, LVDS54p (nCEO) (io), N15 IO, LVDS52n, DQ1R7/DQ1R16 (io), N16 IO, LVDS52p, DQ1R6/DQ1R15 (io), P14 IO, DQ1R5/DQ1R14 (io), P15 IO, LVDS53n, (DM1R/BWS#1R)/(DM1R1/BWS#1R1) (io), P16 IO, LVDS53p, DQ1R8/DQ1R17 (io)
part D pins: K6 IO, LVDS73n (io), K7 IO, LVDS73p (io), K10 IO, LVDS62n (io), K11 IO, LVDS62p (io), L7 IO, LVDS69p (io), L8 IO, LVDS69n (io), L9 IO, LVDS64p (io), L10 IO, LVDS64n (io), L11 IO, LVDS57n (io), M11 IO, LVDS57p (io), N6 IO, LVDS71n, DQ1B2/DQ1B11 (io), N7 IO (io), N8 IO, VREFB4N1 (io), N9 IO, LVDS66p (io), N10 IO, LVDS66n (io), N11 IO, VREFB4N0 (io), P4 IO, LVDS76n, DQ1B7/DQ1B16 (io), P5 IO, LVDS76p, DQ1B8/DQ1B17 (io), P6 IO, LVDS71p, DQ1B3/DQ1B12 (io), P11 IO (io), P12 IO, LVDS61p, DQ0B6/DQ1B6 (io), P13 IO, LVDS61n, DQ0B5/DQ1B5 (io), R3 IO, LVDS77n (DEV_OE) (io), R4 IO, LVDS75n, DQ1B5/DQ1B14 (io), R5 IO, LVDS74n, DQ1B4/DQ1B13 (io), R6 IO, LVDS72n (io), R7 IO, LVDS70n, DQ1B0/DQ1B9 (io), R8 IO, LVDS68n, _/(DM1B0/BWS#1B0) (io), R9 IO, LVDS67n (io), R10 IO, LVDS63p (io), R11 IO, LVDS65n, DM0B/DQ1B8 (io), R12 IO, LVDS60n, DQ0B4/DQ1B4 (io), R13 IO, LVDS59n, DQ0B2/DQ1B2 (io), R14 IO, LVDS58n, DQ0B0/DQ1B0 (io), T3 IO, LVDS77p, (DM1B/BWS#1B)/(DM1B1/BWS#1B1) (io), T4 IO, LVDS75p, DQ1B6/DQ1B15 (io), T5 IO, LVDS74p, (DPCLK2/DQS1B)/(DPCLK2/DQS1B) (io), T6 IO, LVDS72p (io), T7 IO, LVDS70p, DQ1B1/DQ1B10 (io), T8 IO, LVDS68p (io), T9 IO, LVDS67p (io), T10 IO, LVDS63n, DQ0B7/DQ1B7 (io), T11 IO, LVDS65p (io), T12 IO, LVDS60p, (DPCLK4/DQS0B)/(DPCLK4/DQS0B) (io), T13 IO, LVDS59p, DQ0B3/DQ1B3 (io), T14 IO, LVDS58p, DQ0B1/DQ1B1 (io)
part E pins: F1 DATA0 (io), F2 TCK (in), G1 TMS (in), G2 TDO (out), G5 nCE (in), H4 DCLK (io), H5 TDI (in), J5 nCONFIG (in), J13 MSEL0 (in), K12 MSEL1 (in), L13 CONF_DONE (io), M13 nSTATUS (io)
part F pins: A2 VCCIO2 (power), A15 VCCIO2 (power), B1 VCCIO1 (power), B16 VCCIO3 (power), C7 VCCIO2 (power), C10 VCCIO2 (power), E7 VCCIO2 (power), E10 VCCIO2 (power), G3 VCCIO1 (power), G9 VCCINT (power), G14 VCCIO3 (power), H7 VCCINT (power), H10 VCCINT (power), J7 VCCINT (power), J10 VCCINT (power), K3 VCCIO1 (power), K8 VCCINT (power), K14 VCCIO3 (power), M7 VCCIO4 (power), M10 VCCIO4 (power), P7 VCCIO4 (power), P10 VCCIO4 (power), R1 VCCIO1 (power), R16 VCCIO3 (power), T2 VCCIO4 (power), T15 VCCIO4 (power)
part G pins: A1 GND (power), A16 GND (power), B2 GND (power), B15 GND (power), C8 GND (power), C9 GND (power), E8 GND (power), E9 GND (power), G8 GND (power), H3 GND (power), H8 GND (power), H9 GND (power), H14 GND (power), J3 GND (power), J8 GND (power), J9 GND (power), J14 GND (power), K9 GND (power), M8 GND (power), M9 GND (power), P8 GND (power), P9 GND (power), R2 GND (power), R15 GND (power), T1 GND (power), T16 GND (power)
part H pins: D12 GND_PLL2 (power), E11 GNDA_PLL2 (power), E12 VCCA_PLL2 (power), F11 VCCD_PLL2 (power), F12 GND_PLL2 (power), L5 GND_PLL1 (power), L6 VCCD_PLL1 (power), M5 VCCA_PLL1 (power), M6 GNDA_PLL1 (power), N5 GND_PLL1 (power)
part I pins: H1 CLK1, LVDSCLK0n INPUT (in), H2 CLK0, LVDSCLK0p INPUT (in), H15 CLK5, LVDSCLK2n INPUT (in), H16 CLK4, LVDSCLK2p INPUT (in), J1 CLK3, LVDSCLK1n INPUT (in), J2 CLK2, LVDSCLK1p INPUT (in), J15 CLK6, LVDSCLK3p INPUT (in), J16 CLK7, LVDSCLK3n INPUT (in)
part A text: BANK 1
part B text: BANK 2
part C text: BANK 3
part D text: BANK 4

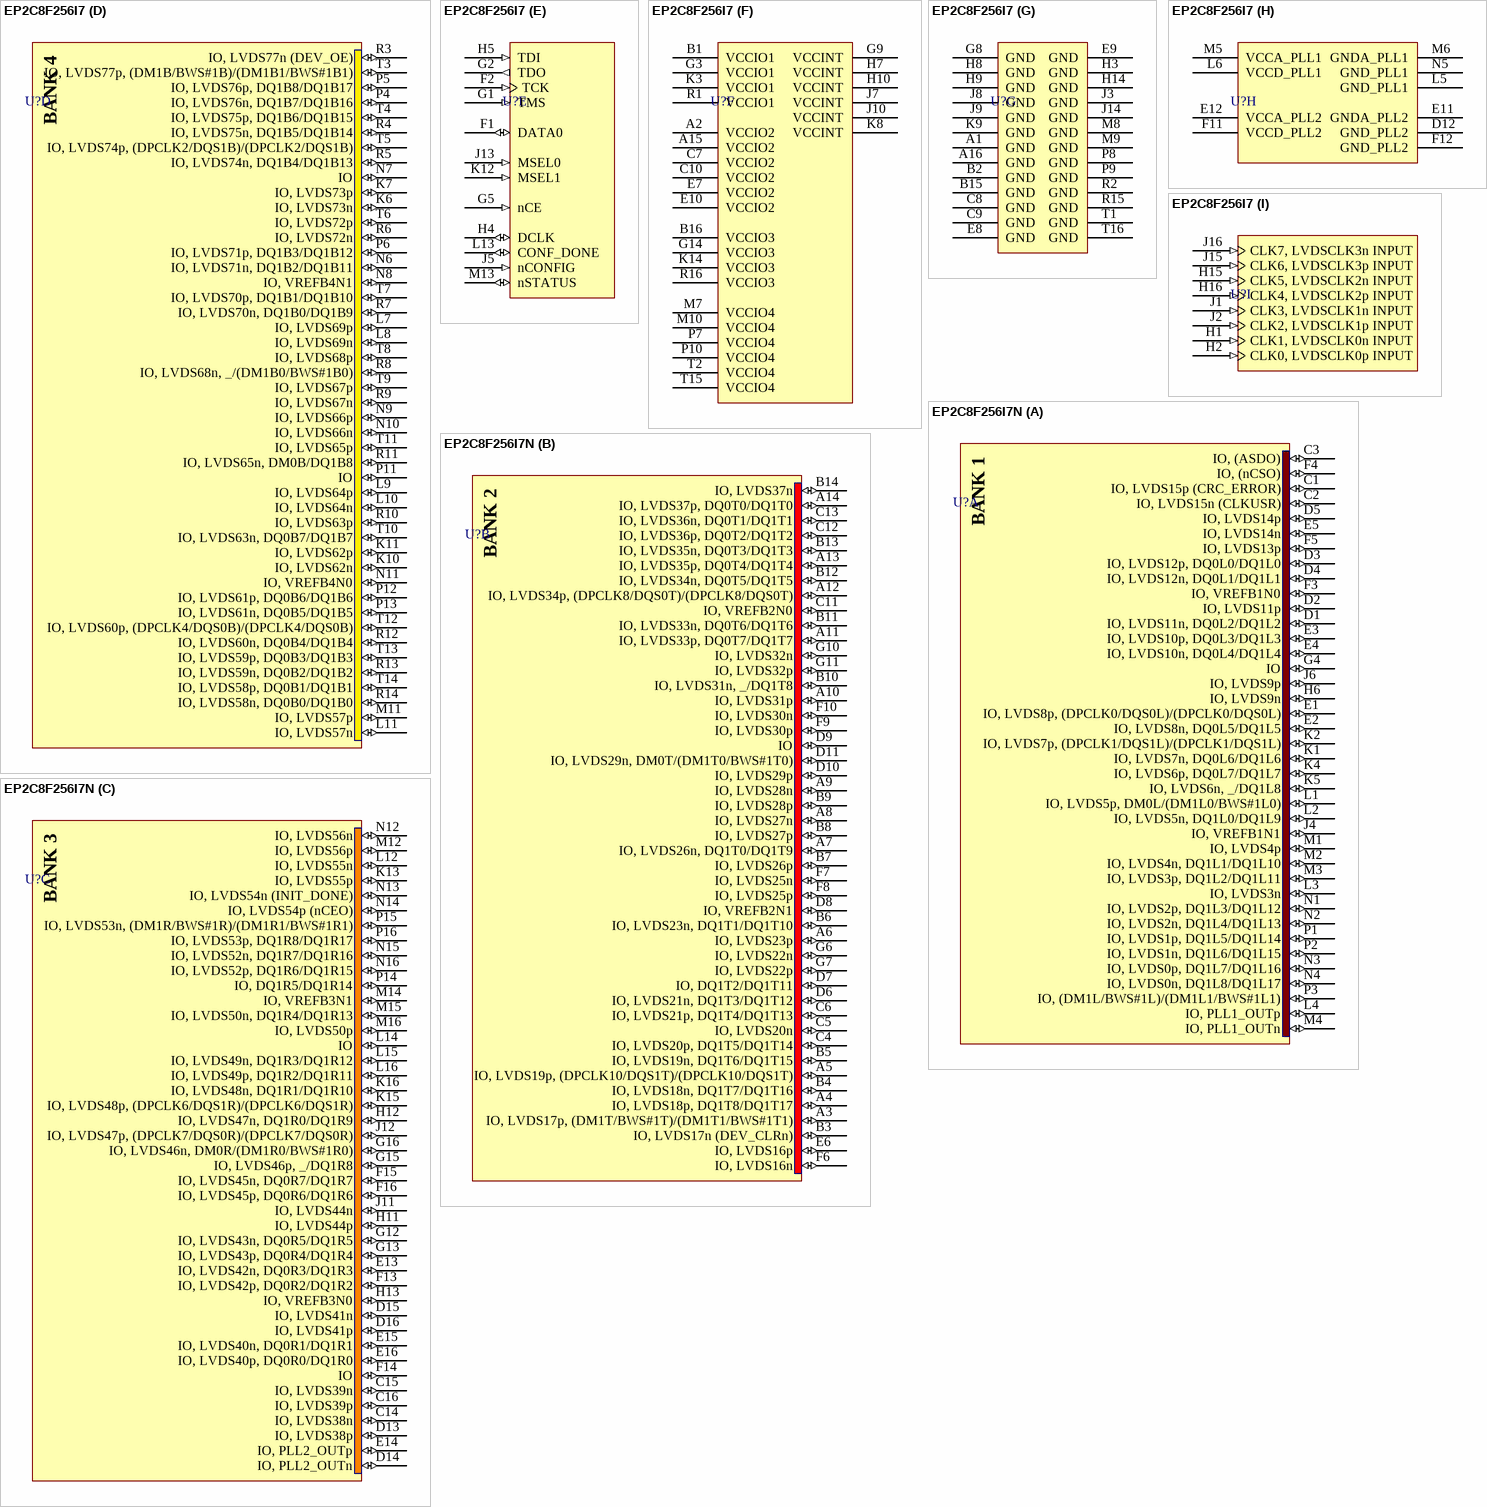
[diagram p38: symbols EP2C8F256I7 to EP2C8F256I7N]

## EP2C8F256I7
designator U?
Cyclone II Family, 1.2V FPGA, 182 I/O Pins, 2 PLLs, 256-Pin FBGA, Speed Grade 7, Industrial Grade; Note: DQS signal pins named according to DQ bus modes.  "/" separates each mode. ie. Modes x8/x9 / Modes x16/x18.; Published: 18-Aug-2005; LatestRevisionDate: 13-Apr-2006; LatestRevisionNote: IPC-7351 Footprint Added.; DatasheetVersion: ver2.3, Mar-2006; PackageVersion: ver14.2, Oct-2005; PackageReference: FBGA256; Publisher: Altium Limited; PackageDescription: 256-Ball FineLine Ball Grid Array (FBGA256) - Option 1; Code_JEDEC: MS-034-AAF-1; Code_IPC: BGA100P16X16-256; ComponentLink1Description: Manufacturer Link; ComponentLink1URL: http://www.altera.com/products/devices/cyclone2/cy2-index.jsp; ComponentLink2Description: Handbook; ComponentLink2URL: http://www.altera.com/literature/hb/cyc2/cyc2_cii5v1.pdf; ComponentLink3Description: Packaging Specification; ComponentLink3URL: http://www.altera.com/literature/ds/dspkg.pdf
footprint FBGA256 (BGA, 256-Leads, Body 17x17mm, Pitch 1mm)
3D model EP2C8-FBGA256 (256-Ball FineLine Ball Grid Array (FBGA256) - Option 1)
signal-integrity model EP2C8F_256 (Cyclone II)
part A pins: C1 IO, LVDS15p (CRC_ERROR) (io), C2 IO, LVDS15n (CLKUSR) (io), C3 IO, (ASDO) (io), D1 IO, LVDS11n, DQ0L2/DQ1L2 (io), D2 IO, LVDS11p (io), D3 IO, LVDS12p, DQ0L0/DQ1L0 (io), D4 IO, LVDS12n, DQ0L1/DQ1L1 (io), D5 IO, LVDS14p (io), E1 IO, LVDS8p, (DPCLK0/DQS0L)/(DPCLK0/DQS0L) (io), E2 IO, LVDS8n, DQ0L5/DQ1L5 (io), E3 IO, LVDS10p, DQ0L3/DQ1L3 (io), E4 IO, LVDS10n, DQ0L4/DQ1L4 (io), E5 IO, LVDS14n (io), F3 IO, VREFB1N0 (io), F4 IO, (nCSO) (io), F5 IO, LVDS13p (io), G4 IO (io), H6 IO, LVDS9n (io), J4 IO, VREFB1N1 (io), J6 IO, LVDS9p (io), K1 IO, LVDS7n, DQ0L6/DQ1L6 (io), K2 IO, LVDS7p, (DPCLK1/DQS1L)/(DPCLK1/DQS1L) (io), K4 IO, LVDS6p, DQ0L7/DQ1L7 (io), K5 IO, LVDS6n, _/DQ1L8 (io), L1 IO, LVDS5p, DM0L/(DM1L0/BWS#1L0) (io), L2 IO, LVDS5n, DQ1L0/DQ1L9 (io), L3 IO, LVDS3n (io), L4 IO, PLL1_OUTp (io), M1 IO, LVDS4p (io), M2 IO, LVDS4n, DQ1L1/DQ1L10 (io), M3 IO, LVDS3p, DQ1L2/DQ1L11 (io), M4 IO, PLL1_OUTn (io), N1 IO, LVDS2p, DQ1L3/DQ1L12 (io), N2 IO, LVDS2n, DQ1L4/DQ1L13 (io), N3 IO, LVDS0p, DQ1L7/DQ1L16 (io), N4 IO, LVDS0n, DQ1L8/DQ1L17 (io), P1 IO, LVDS1p, DQ1L5/DQ1L14 (io), P2 IO, LVDS1n, DQ1L6/DQ1L15 (io), P3 IO, (DM1L/BWS#1L)/(DM1L1/BWS#1L1) (io)
part B pins: A3 IO, LVDS17p, (DM1T/BWS#1T)/(DM1T1/BWS#1T1) (io), A4 IO, LVDS18p, DQ1T8/DQ1T17 (io), A5 IO, LVDS19p, (DPCLK10/DQS1T)/(DPCLK10/DQS1T) (io), A6 IO, LVDS23p (io), A7 IO, LVDS26n, DQ1T0/DQ1T9 (io), A8 IO, LVDS27n (io), A9 IO, LVDS28n (io), A10 IO, LVDS31p (io), A11 IO, LVDS33p, DQ0T7/DQ1T7 (io), A12 IO, LVDS34p, (DPCLK8/DQS0T)/(DPCLK8/DQS0T) (io), A13 IO, LVDS35p, DQ0T4/DQ1T4 (io), A14 IO, LVDS37p, DQ0T0/DQ1T0 (io), B3 IO, LVDS17n (DEV_CLRn) (io), B4 IO, LVDS18n, DQ1T7/DQ1T16 (io), B5 IO, LVDS19n, DQ1T6/DQ1T15 (io), B6 IO, LVDS23n, DQ1T1/DQ1T10 (io), B7 IO, LVDS26p (io), B8 IO, LVDS27p (io), B9 IO, LVDS28p (io), B10 IO, LVDS31n, _/DQ1T8 (io), B11 IO, LVDS33n, DQ0T6/DQ1T6 (io), B12 IO, LVDS34n, DQ0T5/DQ1T5 (io), B13 IO, LVDS35n, DQ0T3/DQ1T3 (io), B14 IO, LVDS37n (io), C4 IO, LVDS20p, DQ1T5/DQ1T14 (io), C5 IO, LVDS20n (io), C6 IO, LVDS21p, DQ1T4/DQ1T13 (io), C11 IO, VREFB2N0 (io), C12 IO, LVDS36p, DQ0T2/DQ1T2 (io), C13 IO, LVDS36n, DQ0T1/DQ1T1 (io), D6 IO, LVDS21n, DQ1T3/DQ1T12 (io), D7 IO, DQ1T2/DQ1T11 (io), D8 IO, VREFB2N1 (io), D9 IO (io), D10 IO, LVDS29p (io), D11 IO, LVDS29n, DM0T/(DM1T0/BWS#1T0) (io), E6 IO, LVDS16p (io), F6 IO, LVDS16n (io), F7 IO, LVDS25n (io), F8 IO, LVDS25p (io), F9 IO, LVDS30p (io), F10 IO, LVDS30n (io), G6 IO, LVDS22n (io), G7 IO, LVDS22p (io), G10 IO, LVDS32n (io), G11 IO, LVDS32p (io)
part C pins: C14 IO, LVDS38n (io), C15 IO, LVDS39n (io), C16 IO, LVDS39p (io), D13 IO, LVDS38p (io), D14 IO, PLL2_OUTn (io), D15 IO, LVDS41n (io), D16 IO, LVDS41p (io), E13 IO, LVDS42n, DQ0R3/DQ1R3 (io), E14 IO, PLL2_OUTp (io), E15 IO, LVDS40n, DQ0R1/DQ1R1 (io), E16 IO, LVDS40p, DQ0R0/DQ1R0 (io), F13 IO, LVDS42p, DQ0R2/DQ1R2 (io), F14 IO (io), F15 IO, LVDS45n, DQ0R7/DQ1R7 (io), F16 IO, LVDS45p, DQ0R6/DQ1R6 (io), G12 IO, LVDS43n, DQ0R5/DQ1R5 (io), G13 IO, LVDS43p, DQ0R4/DQ1R4 (io), G15 IO, LVDS46p, _/DQ1R8 (io), G16 IO, LVDS46n, DM0R/(DM1R0/BWS#1R0) (io), H11 IO, LVDS44p (io), H12 IO, LVDS47n, DQ1R0/DQ1R9 (io), H13 IO, VREFB3N0 (io), J11 IO, LVDS44n (io), J12 IO, LVDS47p, (DPCLK7/DQS0R)/(DPCLK7/DQS0R) (io), K13 IO, LVDS55p (io), K15 IO, LVDS48p, (DPCLK6/DQS1R)/(DPCLK6/DQS1R) (io), K16 IO, LVDS48n, DQ1R1/DQ1R10 (io), L12 IO, LVDS55n (io), L14 IO (io), L15 IO, LVDS49n, DQ1R3/DQ1R12 (io), L16 IO, LVDS49p, DQ1R2/DQ1R11 (io), M12 IO, LVDS56p (io), M14 IO, VREFB3N1 (io), M15 IO, LVDS50n, DQ1R4/DQ1R13 (io), M16 IO, LVDS50p (io), N12 IO, LVDS56n (io), N13 IO, LVDS54n (INIT_DONE) (io), N14 IO, LVDS54p (nCEO) (io), N15 IO, LVDS52n, DQ1R7/DQ1R16 (io), N16 IO, LVDS52p, DQ1R6/DQ1R15 (io), P14 IO, DQ1R5/DQ1R14 (io), P15 IO, LVDS53n, (DM1R/BWS#1R)/(DM1R1/BWS#1R1) (io), P16 IO, LVDS53p, DQ1R8/DQ1R17 (io)
part D pins: K6 IO, LVDS73n (io), K7 IO, LVDS73p (io), K10 IO, LVDS62n (io), K11 IO, LVDS62p (io), L7 IO, LVDS69p (io), L8 IO, LVDS69n (io), L9 IO, LVDS64p (io), L10 IO, LVDS64n (io), L11 IO, LVDS57n (io), M11 IO, LVDS57p (io), N6 IO, LVDS71n, DQ1B2/DQ1B11 (io), N7 IO (io), N8 IO, VREFB4N1 (io), N9 IO, LVDS66p (io), N10 IO, LVDS66n (io), N11 IO, VREFB4N0 (io), P4 IO, LVDS76n, DQ1B7/DQ1B16 (io), P5 IO, LVDS76p, DQ1B8/DQ1B17 (io), P6 IO, LVDS71p, DQ1B3/DQ1B12 (io), P11 IO (io), P12 IO, LVDS61p, DQ0B6/DQ1B6 (io), P13 IO, LVDS61n, DQ0B5/DQ1B5 (io), R3 IO, LVDS77n (DEV_OE) (io), R4 IO, LVDS75n, DQ1B5/DQ1B14 (io), R5 IO, LVDS74n, DQ1B4/DQ1B13 (io), R6 IO, LVDS72n (io), R7 IO, LVDS70n, DQ1B0/DQ1B9 (io), R8 IO, LVDS68n, _/(DM1B0/BWS#1B0) (io), R9 IO, LVDS67n (io), R10 IO, LVDS63p (io), R11 IO, LVDS65n, DM0B/DQ1B8 (io), R12 IO, LVDS60n, DQ0B4/DQ1B4 (io), R13 IO, LVDS59n, DQ0B2/DQ1B2 (io), R14 IO, LVDS58n, DQ0B0/DQ1B0 (io), T3 IO, LVDS77p, (DM1B/BWS#1B)/(DM1B1/BWS#1B1) (io), T4 IO, LVDS75p, DQ1B6/DQ1B15 (io), T5 IO, LVDS74p, (DPCLK2/DQS1B)/(DPCLK2/DQS1B) (io), T6 IO, LVDS72p (io), T7 IO, LVDS70p, DQ1B1/DQ1B10 (io), T8 IO, LVDS68p (io), T9 IO, LVDS67p (io), T10 IO, LVDS63n, DQ0B7/DQ1B7 (io), T11 IO, LVDS65p (io), T12 IO, LVDS60p, (DPCLK4/DQS0B)/(DPCLK4/DQS0B) (io), T13 IO, LVDS59p, DQ0B3/DQ1B3 (io), T14 IO, LVDS58p, DQ0B1/DQ1B1 (io)
part E pins: F1 DATA0 (io), F2 TCK (in), G1 TMS (in), G2 TDO (out), G5 nCE (in), H4 DCLK (io), H5 TDI (in), J5 nCONFIG (in), J13 MSEL0 (in), K12 MSEL1 (in), L13 CONF_DONE (io), M13 nSTATUS (io)
part F pins: A2 VCCIO2 (power), A15 VCCIO2 (power), B1 VCCIO1 (power), B16 VCCIO3 (power), C7 VCCIO2 (power), C10 VCCIO2 (power), E7 VCCIO2 (power), E10 VCCIO2 (power), G3 VCCIO1 (power), G9 VCCINT (power), G14 VCCIO3 (power), H7 VCCINT (power), H10 VCCINT (power), J7 VCCINT (power), J10 VCCINT (power), K3 VCCIO1 (power), K8 VCCINT (power), K14 VCCIO3 (power), M7 VCCIO4 (power), M10 VCCIO4 (power), P7 VCCIO4 (power), P10 VCCIO4 (power), R1 VCCIO1 (power), R16 VCCIO3 (power), T2 VCCIO4 (power), T15 VCCIO4 (power)
part G pins: A1 GND (power), A16 GND (power), B2 GND (power), B15 GND (power), C8 GND (power), C9 GND (power), E8 GND (power), E9 GND (power), G8 GND (power), H3 GND (power), H8 GND (power), H9 GND (power), H14 GND (power), J3 GND (power), J8 GND (power), J9 GND (power), J14 GND (power), K9 GND (power), M8 GND (power), M9 GND (power), P8 GND (power), P9 GND (power), R2 GND (power), R15 GND (power), T1 GND (power), T16 GND (power)
part H pins: D12 GND_PLL2 (power), E11 GNDA_PLL2 (power), E12 VCCA_PLL2 (power), F11 VCCD_PLL2 (power), F12 GND_PLL2 (power), L5 GND_PLL1 (power), L6 VCCD_PLL1 (power), M5 VCCA_PLL1 (power), M6 GNDA_PLL1 (power), N5 GND_PLL1 (power)
part I pins: H1 CLK1, LVDSCLK0n INPUT (in), H2 CLK0, LVDSCLK0p INPUT (in), H15 CLK5, LVDSCLK2n INPUT (in), H16 CLK4, LVDSCLK2p INPUT (in), J1 CLK3, LVDSCLK1n INPUT (in), J2 CLK2, LVDSCLK1p INPUT (in), J15 CLK6, LVDSCLK3p INPUT (in), J16 CLK7, LVDSCLK3n INPUT (in)
part A text: BANK 1
part B text: BANK 2
part C text: BANK 3
part D text: BANK 4

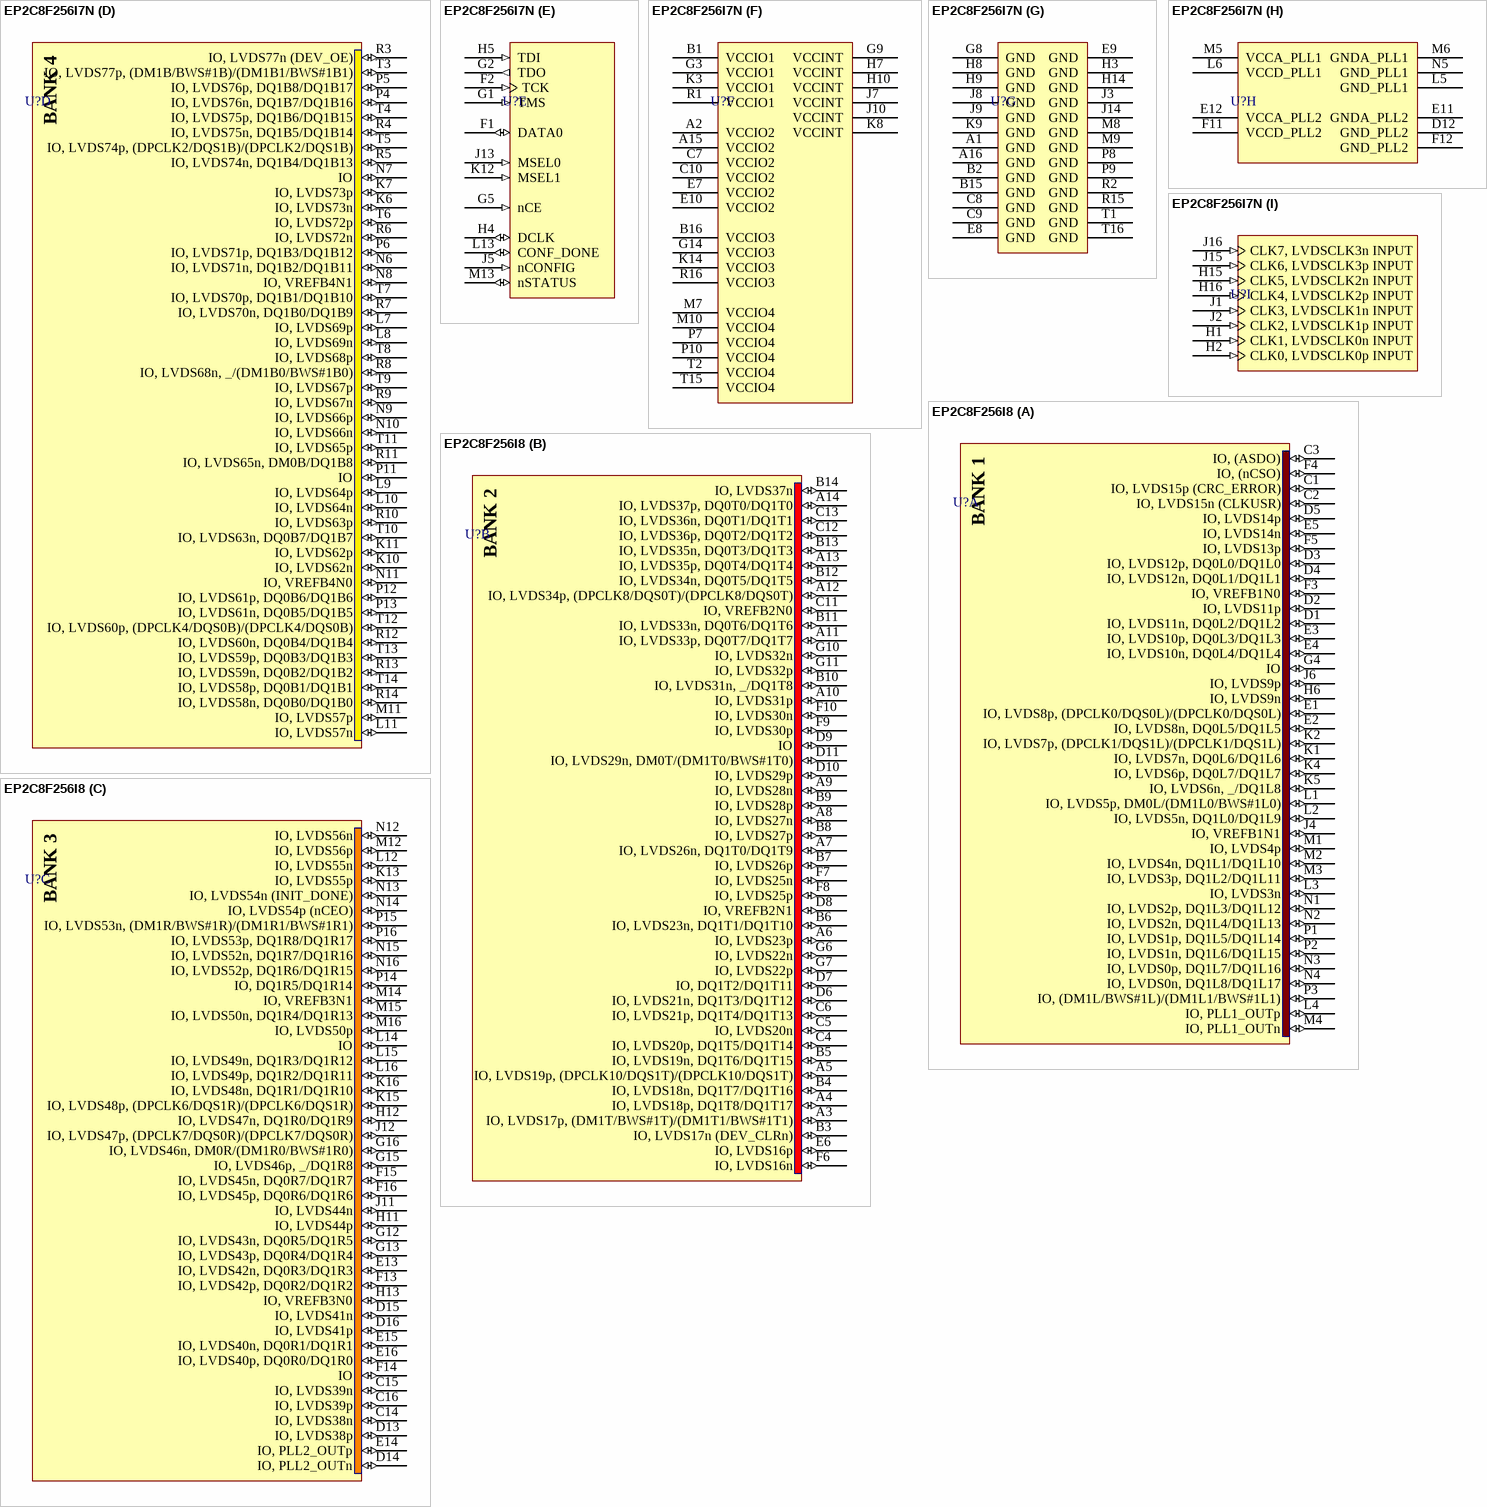
[diagram p39: symbols EP2C8F256I7N to EP2C8F256I8]

## EP2C8F256I7N
designator U?
Cyclone II Family, 1.2V FPGA, 182 I/O Pins, 2 PLLs, 256-Pin FBGA, Speed Grade 7, Industrial Grade, Pb-Free; Note: DQS signal pins named according to DQ bus modes.  "/" separates each mode. ie. Modes x8/x9 / Modes x16/x18.; Published: 18-Aug-2005; LatestRevisionDate: 13-Apr-2006; LatestRevisionNote: IPC-7351 Footprint Added.; DatasheetVersion: ver2.3, Mar-2006; PackageVersion: ver14.2, Oct-2005; PackageReference: FBGA256; Publisher: Altium Limited; PackageDescription: 256-Ball FineLine Ball Grid Array (FBGA256) - Option 1; Code_JEDEC: MS-034-AAF-1; Code_IPC: BGA100P16X16-256; ComponentLink1Description: Manufacturer Link; ComponentLink1URL: http://www.altera.com/products/devices/cyclone2/cy2-index.jsp; ComponentLink2Description: Handbook; ComponentLink2URL: http://www.altera.com/literature/hb/cyc2/cyc2_cii5v1.pdf; ComponentLink3Description: Packaging Specification; ComponentLink3URL: http://www.altera.com/literature/ds/dspkg.pdf
footprint FBGA256 (BGA, 256-Leads, Body 17x17mm, Pitch 1mm)
3D model EP2C8-FBGA256 (256-Ball FineLine Ball Grid Array (FBGA256) - Option 1)
signal-integrity model EP2C8F_256 (Cyclone II)
part A pins: C1 IO, LVDS15p (CRC_ERROR) (io), C2 IO, LVDS15n (CLKUSR) (io), C3 IO, (ASDO) (io), D1 IO, LVDS11n, DQ0L2/DQ1L2 (io), D2 IO, LVDS11p (io), D3 IO, LVDS12p, DQ0L0/DQ1L0 (io), D4 IO, LVDS12n, DQ0L1/DQ1L1 (io), D5 IO, LVDS14p (io), E1 IO, LVDS8p, (DPCLK0/DQS0L)/(DPCLK0/DQS0L) (io), E2 IO, LVDS8n, DQ0L5/DQ1L5 (io), E3 IO, LVDS10p, DQ0L3/DQ1L3 (io), E4 IO, LVDS10n, DQ0L4/DQ1L4 (io), E5 IO, LVDS14n (io), F3 IO, VREFB1N0 (io), F4 IO, (nCSO) (io), F5 IO, LVDS13p (io), G4 IO (io), H6 IO, LVDS9n (io), J4 IO, VREFB1N1 (io), J6 IO, LVDS9p (io), K1 IO, LVDS7n, DQ0L6/DQ1L6 (io), K2 IO, LVDS7p, (DPCLK1/DQS1L)/(DPCLK1/DQS1L) (io), K4 IO, LVDS6p, DQ0L7/DQ1L7 (io), K5 IO, LVDS6n, _/DQ1L8 (io), L1 IO, LVDS5p, DM0L/(DM1L0/BWS#1L0) (io), L2 IO, LVDS5n, DQ1L0/DQ1L9 (io), L3 IO, LVDS3n (io), L4 IO, PLL1_OUTp (io), M1 IO, LVDS4p (io), M2 IO, LVDS4n, DQ1L1/DQ1L10 (io), M3 IO, LVDS3p, DQ1L2/DQ1L11 (io), M4 IO, PLL1_OUTn (io), N1 IO, LVDS2p, DQ1L3/DQ1L12 (io), N2 IO, LVDS2n, DQ1L4/DQ1L13 (io), N3 IO, LVDS0p, DQ1L7/DQ1L16 (io), N4 IO, LVDS0n, DQ1L8/DQ1L17 (io), P1 IO, LVDS1p, DQ1L5/DQ1L14 (io), P2 IO, LVDS1n, DQ1L6/DQ1L15 (io), P3 IO, (DM1L/BWS#1L)/(DM1L1/BWS#1L1) (io)
part B pins: A3 IO, LVDS17p, (DM1T/BWS#1T)/(DM1T1/BWS#1T1) (io), A4 IO, LVDS18p, DQ1T8/DQ1T17 (io), A5 IO, LVDS19p, (DPCLK10/DQS1T)/(DPCLK10/DQS1T) (io), A6 IO, LVDS23p (io), A7 IO, LVDS26n, DQ1T0/DQ1T9 (io), A8 IO, LVDS27n (io), A9 IO, LVDS28n (io), A10 IO, LVDS31p (io), A11 IO, LVDS33p, DQ0T7/DQ1T7 (io), A12 IO, LVDS34p, (DPCLK8/DQS0T)/(DPCLK8/DQS0T) (io), A13 IO, LVDS35p, DQ0T4/DQ1T4 (io), A14 IO, LVDS37p, DQ0T0/DQ1T0 (io), B3 IO, LVDS17n (DEV_CLRn) (io), B4 IO, LVDS18n, DQ1T7/DQ1T16 (io), B5 IO, LVDS19n, DQ1T6/DQ1T15 (io), B6 IO, LVDS23n, DQ1T1/DQ1T10 (io), B7 IO, LVDS26p (io), B8 IO, LVDS27p (io), B9 IO, LVDS28p (io), B10 IO, LVDS31n, _/DQ1T8 (io), B11 IO, LVDS33n, DQ0T6/DQ1T6 (io), B12 IO, LVDS34n, DQ0T5/DQ1T5 (io), B13 IO, LVDS35n, DQ0T3/DQ1T3 (io), B14 IO, LVDS37n (io), C4 IO, LVDS20p, DQ1T5/DQ1T14 (io), C5 IO, LVDS20n (io), C6 IO, LVDS21p, DQ1T4/DQ1T13 (io), C11 IO, VREFB2N0 (io), C12 IO, LVDS36p, DQ0T2/DQ1T2 (io), C13 IO, LVDS36n, DQ0T1/DQ1T1 (io), D6 IO, LVDS21n, DQ1T3/DQ1T12 (io), D7 IO, DQ1T2/DQ1T11 (io), D8 IO, VREFB2N1 (io), D9 IO (io), D10 IO, LVDS29p (io), D11 IO, LVDS29n, DM0T/(DM1T0/BWS#1T0) (io), E6 IO, LVDS16p (io), F6 IO, LVDS16n (io), F7 IO, LVDS25n (io), F8 IO, LVDS25p (io), F9 IO, LVDS30p (io), F10 IO, LVDS30n (io), G6 IO, LVDS22n (io), G7 IO, LVDS22p (io), G10 IO, LVDS32n (io), G11 IO, LVDS32p (io)
part C pins: C14 IO, LVDS38n (io), C15 IO, LVDS39n (io), C16 IO, LVDS39p (io), D13 IO, LVDS38p (io), D14 IO, PLL2_OUTn (io), D15 IO, LVDS41n (io), D16 IO, LVDS41p (io), E13 IO, LVDS42n, DQ0R3/DQ1R3 (io), E14 IO, PLL2_OUTp (io), E15 IO, LVDS40n, DQ0R1/DQ1R1 (io), E16 IO, LVDS40p, DQ0R0/DQ1R0 (io), F13 IO, LVDS42p, DQ0R2/DQ1R2 (io), F14 IO (io), F15 IO, LVDS45n, DQ0R7/DQ1R7 (io), F16 IO, LVDS45p, DQ0R6/DQ1R6 (io), G12 IO, LVDS43n, DQ0R5/DQ1R5 (io), G13 IO, LVDS43p, DQ0R4/DQ1R4 (io), G15 IO, LVDS46p, _/DQ1R8 (io), G16 IO, LVDS46n, DM0R/(DM1R0/BWS#1R0) (io), H11 IO, LVDS44p (io), H12 IO, LVDS47n, DQ1R0/DQ1R9 (io), H13 IO, VREFB3N0 (io), J11 IO, LVDS44n (io), J12 IO, LVDS47p, (DPCLK7/DQS0R)/(DPCLK7/DQS0R) (io), K13 IO, LVDS55p (io), K15 IO, LVDS48p, (DPCLK6/DQS1R)/(DPCLK6/DQS1R) (io), K16 IO, LVDS48n, DQ1R1/DQ1R10 (io), L12 IO, LVDS55n (io), L14 IO (io), L15 IO, LVDS49n, DQ1R3/DQ1R12 (io), L16 IO, LVDS49p, DQ1R2/DQ1R11 (io), M12 IO, LVDS56p (io), M14 IO, VREFB3N1 (io), M15 IO, LVDS50n, DQ1R4/DQ1R13 (io), M16 IO, LVDS50p (io), N12 IO, LVDS56n (io), N13 IO, LVDS54n (INIT_DONE) (io), N14 IO, LVDS54p (nCEO) (io), N15 IO, LVDS52n, DQ1R7/DQ1R16 (io), N16 IO, LVDS52p, DQ1R6/DQ1R15 (io), P14 IO, DQ1R5/DQ1R14 (io), P15 IO, LVDS53n, (DM1R/BWS#1R)/(DM1R1/BWS#1R1) (io), P16 IO, LVDS53p, DQ1R8/DQ1R17 (io)
part D pins: K6 IO, LVDS73n (io), K7 IO, LVDS73p (io), K10 IO, LVDS62n (io), K11 IO, LVDS62p (io), L7 IO, LVDS69p (io), L8 IO, LVDS69n (io), L9 IO, LVDS64p (io), L10 IO, LVDS64n (io), L11 IO, LVDS57n (io), M11 IO, LVDS57p (io), N6 IO, LVDS71n, DQ1B2/DQ1B11 (io), N7 IO (io), N8 IO, VREFB4N1 (io), N9 IO, LVDS66p (io), N10 IO, LVDS66n (io), N11 IO, VREFB4N0 (io), P4 IO, LVDS76n, DQ1B7/DQ1B16 (io), P5 IO, LVDS76p, DQ1B8/DQ1B17 (io), P6 IO, LVDS71p, DQ1B3/DQ1B12 (io), P11 IO (io), P12 IO, LVDS61p, DQ0B6/DQ1B6 (io), P13 IO, LVDS61n, DQ0B5/DQ1B5 (io), R3 IO, LVDS77n (DEV_OE) (io), R4 IO, LVDS75n, DQ1B5/DQ1B14 (io), R5 IO, LVDS74n, DQ1B4/DQ1B13 (io), R6 IO, LVDS72n (io), R7 IO, LVDS70n, DQ1B0/DQ1B9 (io), R8 IO, LVDS68n, _/(DM1B0/BWS#1B0) (io), R9 IO, LVDS67n (io), R10 IO, LVDS63p (io), R11 IO, LVDS65n, DM0B/DQ1B8 (io), R12 IO, LVDS60n, DQ0B4/DQ1B4 (io), R13 IO, LVDS59n, DQ0B2/DQ1B2 (io), R14 IO, LVDS58n, DQ0B0/DQ1B0 (io), T3 IO, LVDS77p, (DM1B/BWS#1B)/(DM1B1/BWS#1B1) (io), T4 IO, LVDS75p, DQ1B6/DQ1B15 (io), T5 IO, LVDS74p, (DPCLK2/DQS1B)/(DPCLK2/DQS1B) (io), T6 IO, LVDS72p (io), T7 IO, LVDS70p, DQ1B1/DQ1B10 (io), T8 IO, LVDS68p (io), T9 IO, LVDS67p (io), T10 IO, LVDS63n, DQ0B7/DQ1B7 (io), T11 IO, LVDS65p (io), T12 IO, LVDS60p, (DPCLK4/DQS0B)/(DPCLK4/DQS0B) (io), T13 IO, LVDS59p, DQ0B3/DQ1B3 (io), T14 IO, LVDS58p, DQ0B1/DQ1B1 (io)
part E pins: F1 DATA0 (io), F2 TCK (in), G1 TMS (in), G2 TDO (out), G5 nCE (in), H4 DCLK (io), H5 TDI (in), J5 nCONFIG (in), J13 MSEL0 (in), K12 MSEL1 (in), L13 CONF_DONE (io), M13 nSTATUS (io)
part F pins: A2 VCCIO2 (power), A15 VCCIO2 (power), B1 VCCIO1 (power), B16 VCCIO3 (power), C7 VCCIO2 (power), C10 VCCIO2 (power), E7 VCCIO2 (power), E10 VCCIO2 (power), G3 VCCIO1 (power), G9 VCCINT (power), G14 VCCIO3 (power), H7 VCCINT (power), H10 VCCINT (power), J7 VCCINT (power), J10 VCCINT (power), K3 VCCIO1 (power), K8 VCCINT (power), K14 VCCIO3 (power), M7 VCCIO4 (power), M10 VCCIO4 (power), P7 VCCIO4 (power), P10 VCCIO4 (power), R1 VCCIO1 (power), R16 VCCIO3 (power), T2 VCCIO4 (power), T15 VCCIO4 (power)
part G pins: A1 GND (power), A16 GND (power), B2 GND (power), B15 GND (power), C8 GND (power), C9 GND (power), E8 GND (power), E9 GND (power), G8 GND (power), H3 GND (power), H8 GND (power), H9 GND (power), H14 GND (power), J3 GND (power), J8 GND (power), J9 GND (power), J14 GND (power), K9 GND (power), M8 GND (power), M9 GND (power), P8 GND (power), P9 GND (power), R2 GND (power), R15 GND (power), T1 GND (power), T16 GND (power)
part H pins: D12 GND_PLL2 (power), E11 GNDA_PLL2 (power), E12 VCCA_PLL2 (power), F11 VCCD_PLL2 (power), F12 GND_PLL2 (power), L5 GND_PLL1 (power), L6 VCCD_PLL1 (power), M5 VCCA_PLL1 (power), M6 GNDA_PLL1 (power), N5 GND_PLL1 (power)
part I pins: H1 CLK1, LVDSCLK0n INPUT (in), H2 CLK0, LVDSCLK0p INPUT (in), H15 CLK5, LVDSCLK2n INPUT (in), H16 CLK4, LVDSCLK2p INPUT (in), J1 CLK3, LVDSCLK1n INPUT (in), J2 CLK2, LVDSCLK1p INPUT (in), J15 CLK6, LVDSCLK3p INPUT (in), J16 CLK7, LVDSCLK3n INPUT (in)
part A text: BANK 1
part B text: BANK 2
part C text: BANK 3
part D text: BANK 4

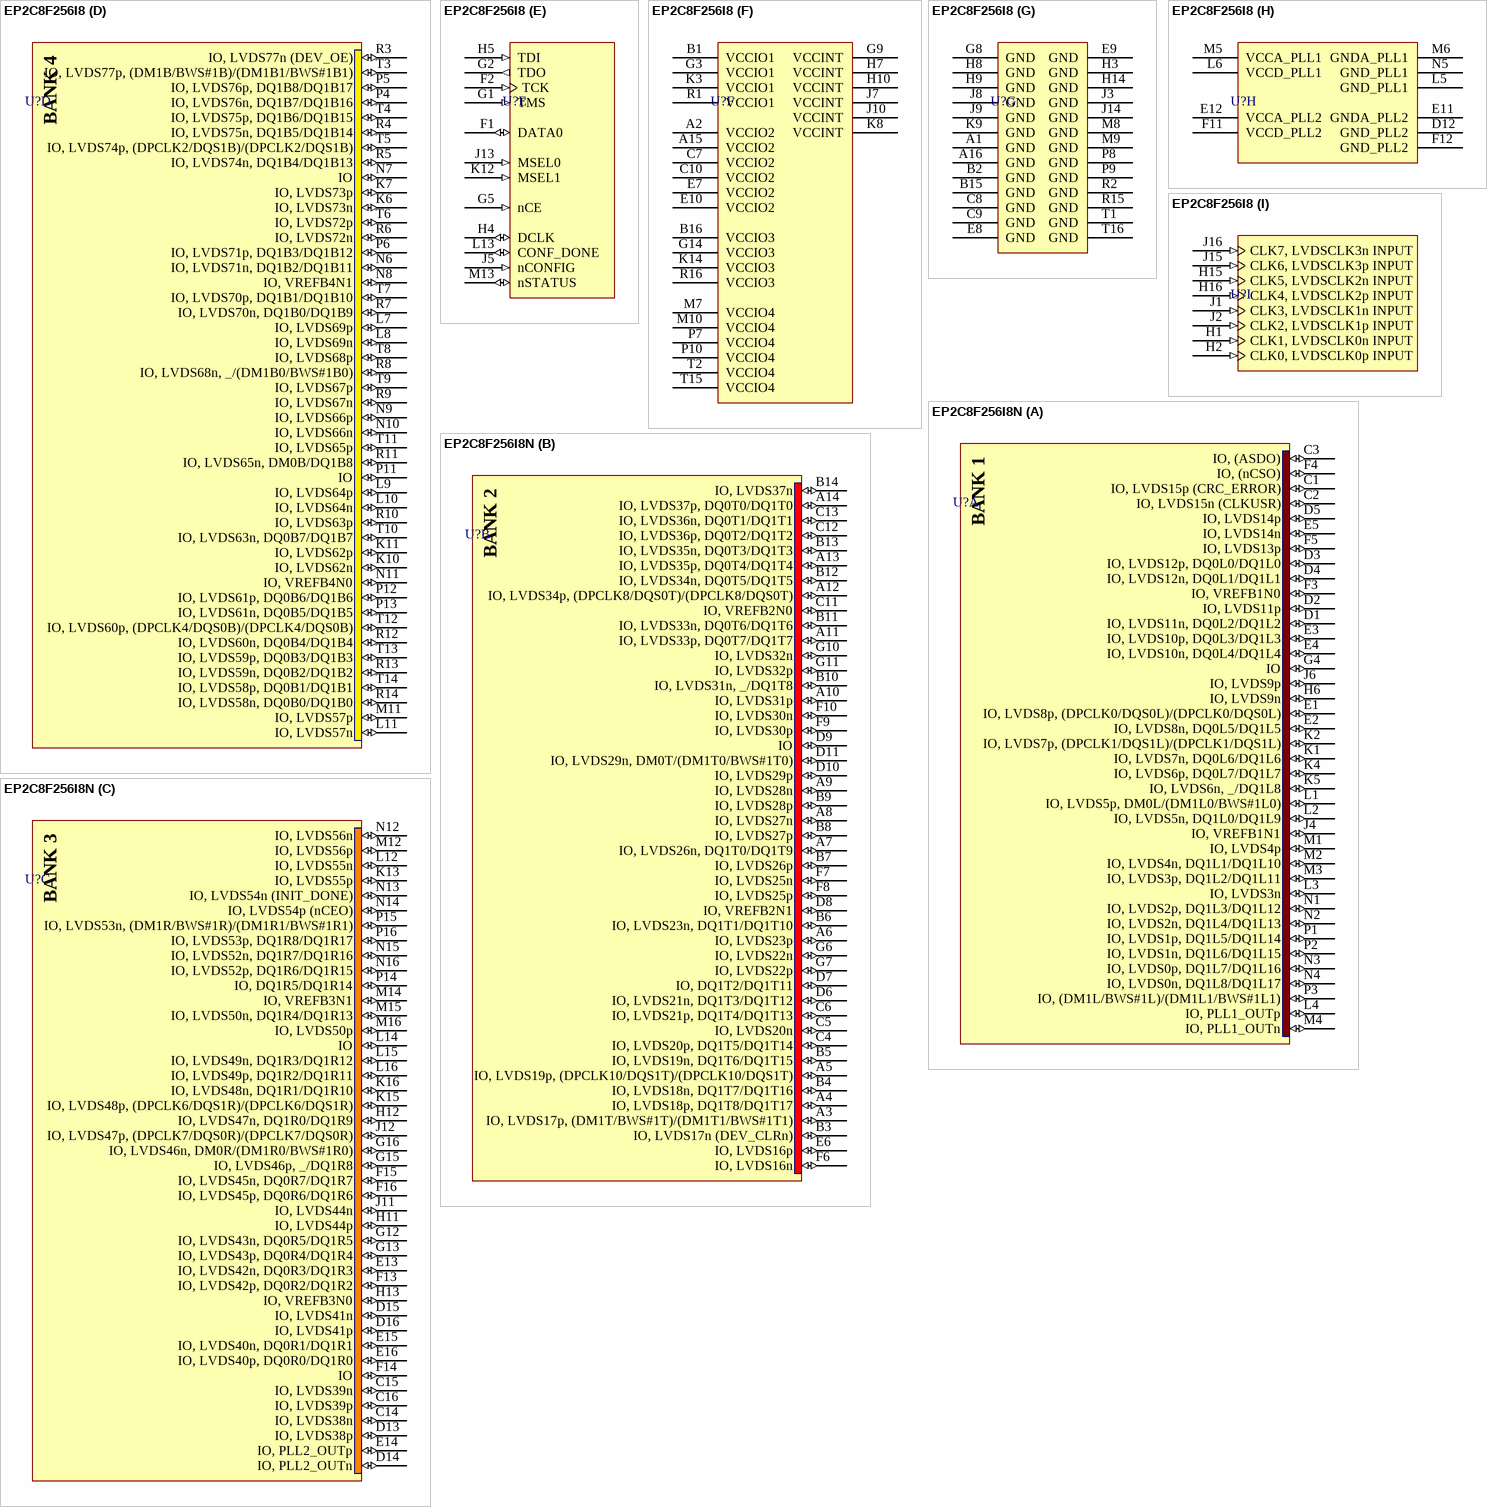
[diagram p40: symbols EP2C8F256I8 to EP2C8F256I8N]